# Altium schematic symbol library ubloxLib.SchLib: 110 symbols (part 1 of 4)
Pins are listed as number, name and electrical type; pins without a type are passive.

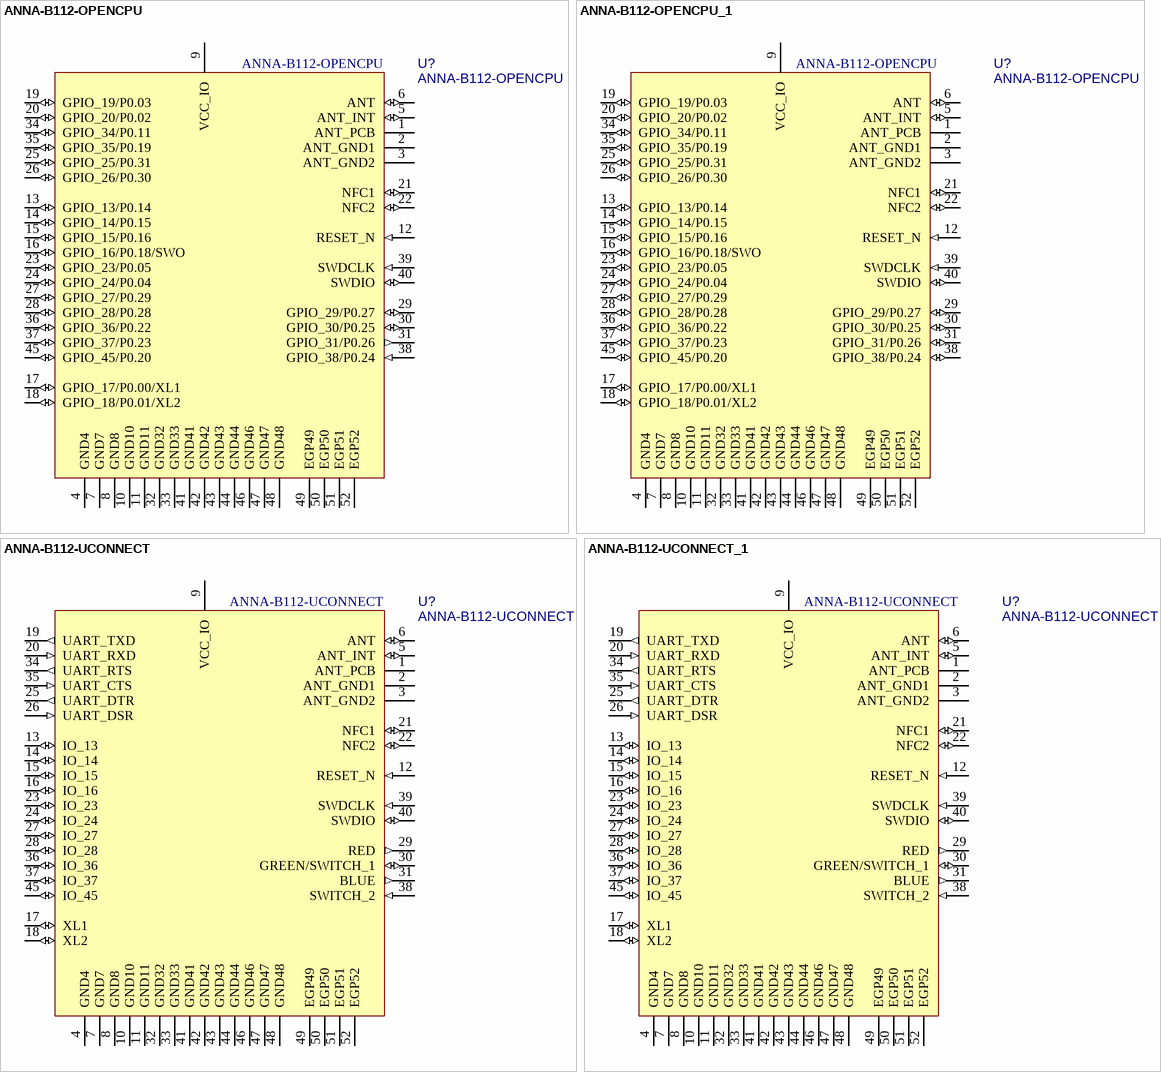
[diagram p0: symbols ANNA-B112-OPENCPU to ANNA-B112-UCONNECT_1]

## ANNA-B112-OPENCPU
designator U?
u-blox ANNA-B112 Bluetooth 5 LE module; Part Description: Stand-alone Bluetooth low energy module; Manufacturer: u-blox; Value: ANNA-B112-OPENCPU
footprint ANNA_LGA52S_650X650
pins: 1 ANT_PCB, 2 ANT_GND1 (power), 3 ANT_GND2 (power), 4 GND4 (power), 5 ANT_INT (io), 6 ANT (io), 7 GND7 (power), 8 GND8 (power), 9 VCC_IO (power), 10 GND10 (power), 11 GND11 (power), 12 RESET_N (in), 13 GPIO_13/P0.14 (io), 14 GPIO_14/P0.15 (io), 15 GPIO_15/P0.16 (io), 16 GPIO_16/P0.18/SWO (io), 17 GPIO_17/P0.00/XL1 (io), 18 GPIO_18/P0.01/XL2 (io), 19 GPIO_19/P0.03 (io), 20 GPIO_20/P0.02 (io), 21 NFC1 (io), 22 NFC2 (io), 23 GPIO_23/P0.05 (io), 24 GPIO_24/P0.04 (io), 25 GPIO_25/P0.31 (io), 26 GPIO_26/P0.30 (io), 27 GPIO_27/P0.29 (io), 28 GPIO_28/P0.28 (io), 29 GPIO_29/P0.27 (io), 30 GPIO_30/P0.25 (io), 31 GPIO_31/P0.26 (out), 32 GND32 (power), 33 GND33 (power), 34 GPIO_34/P0.11 (io), 35 GPIO_35/P0.19 (io), 36 GPIO_36/P0.22 (io), 37 GPIO_37/P0.23 (io), 38 GPIO_38/P0.24 (in), 39 SWDCLK (in), 40 SWDIO (io), 41 GND41 (power), 42 GND42 (power), 43 GND43 (power), 44 GND44 (power), 45 GPIO_45/P0.20 (io), 46 GND46 (power), 47 GND47 (power), 48 GND48 (power), 49 EGP49 (power), 50 EGP50 (power), 51 EGP51 (power), 52 EGP52 (power)

## ANNA-B112-OPENCPU_1
designator U?, comment ANNA-B112-OPENCPU
u-blox ANNA-B112 Bluetooth 5 LE module; Part Description: Stand-alone Bluetooth low energy module; Manufacturer: u-blox; Value: ANNA-B112-OPENCPU
footprint ANNA_LGA52S_650X650
pins: 1 ANT_PCB, 2 ANT_GND1 (power), 3 ANT_GND2 (power), 4 GND4 (power), 5 ANT_INT (io), 6 ANT (io), 7 GND7 (power), 8 GND8 (power), 9 VCC_IO (power), 10 GND10 (power), 11 GND11 (power), 12 RESET_N (in), 13 GPIO_13/P0.14 (io), 14 GPIO_14/P0.15 (io), 15 GPIO_15/P0.16 (io), 16 GPIO_16/P0.18/SWO (io), 17 GPIO_17/P0.00/XL1 (io), 18 GPIO_18/P0.01/XL2 (io), 19 GPIO_19/P0.03 (io), 20 GPIO_20/P0.02 (io), 21 NFC1 (io), 22 NFC2 (io), 23 GPIO_23/P0.05 (io), 24 GPIO_24/P0.04 (io), 25 GPIO_25/P0.31 (io), 26 GPIO_26/P0.30 (io), 27 GPIO_27/P0.29 (io), 28 GPIO_28/P0.28 (io), 29 GPIO_29/P0.27 (io), 30 GPIO_30/P0.25 (io), 31 GPIO_31/P0.26 (io), 32 GND32 (power), 33 GND33 (power), 34 GPIO_34/P0.11 (io), 35 GPIO_35/P0.19 (io), 36 GPIO_36/P0.22 (io), 37 GPIO_37/P0.23 (io), 38 GPIO_38/P0.24 (io), 39 SWDCLK (in), 40 SWDIO (io), 41 GND41 (power), 42 GND42 (power), 43 GND43 (power), 44 GND44 (power), 45 GPIO_45/P0.20 (io), 46 GND46 (power), 47 GND47 (power), 48 GND48 (power), 49 EGP49 (power), 50 EGP50 (power), 51 EGP51 (power), 52 EGP52 (power)

## ANNA-B112-UCONNECT
designator U?
u-blox ANNA-B112 Bluetooth 5 LE module; Part Description: Stand-alone Bluetooth low energy module; Manufacturer: u-blox; Value: ANNA-B112-UCONNECT
footprint ANNA_LGA52S_650X650
pins: 1 ANT_PCB, 2 ANT_GND1 (power), 3 ANT_GND2 (power), 4 GND4 (power), 5 ANT_INT (io), 6 ANT (io), 7 GND7 (power), 8 GND8 (power), 9 VCC_IO (power), 10 GND10 (power), 11 GND11 (power), 12 RESET_N (in), 13 IO_13 (io), 14 IO_14 (io), 15 IO_15 (io), 16 IO_16 (io), 17 XL1 (io), 18 XL2 (io), 19 UART_TXD (out), 20 UART_RXD (in), 21 NFC1 (io), 22 NFC2 (io), 23 IO_23 (io), 24 IO_24 (io), 25 UART_DTR (out), 26 UART_DSR (in), 27 IO_27 (io), 28 IO_28 (io), 29 RED (out), 30 GREEN/SWITCH_1 (io), 31 BLUE (out), 32 GND32 (power), 33 GND33 (power), 34 UART_RTS (out), 35 UART_CTS (in), 36 IO_36 (io), 37 IO_37 (io), 38 SWITCH_2 (in), 39 SWDCLK (in), 40 SWDIO (io), 41 GND41 (power), 42 GND42 (power), 43 GND43 (power), 44 GND44 (power), 45 IO_45 (io), 46 GND46 (power), 47 GND47 (power), 48 GND48 (power), 49 EGP49 (power), 50 EGP50 (power), 51 EGP51 (power), 52 EGP52 (power)

## ANNA-B112-UCONNECT_1
designator U?, comment ANNA-B112-UCONNECT
u-blox ANNA-B112 Bluetooth 5 LE module; Part Description: Stand-alone Bluetooth low energy module; Manufacturer: u-blox; Value: ANNA-B112-UCONNECT
footprint ANNA_LGA52S_650X650
pins: 1 ANT_PCB, 2 ANT_GND1 (power), 3 ANT_GND2 (power), 4 GND4 (power), 5 ANT_INT (io), 6 ANT (io), 7 GND7 (power), 8 GND8 (power), 9 VCC_IO (power), 10 GND10 (power), 11 GND11 (power), 12 RESET_N (in), 13 IO_13 (io), 14 IO_14 (io), 15 IO_15 (io), 16 IO_16 (io), 17 XL1 (io), 18 XL2 (io), 19 UART_TXD (out), 20 UART_RXD (in), 21 NFC1 (io), 22 NFC2 (io), 23 IO_23 (io), 24 IO_24 (io), 25 UART_DTR (out), 26 UART_DSR (in), 27 IO_27 (io), 28 IO_28 (io), 29 RED (out), 30 GREEN/SWITCH_1 (io), 31 BLUE (out), 32 GND32 (power), 33 GND33 (power), 34 UART_RTS (out), 35 UART_CTS (in), 36 IO_36 (io), 37 IO_37 (io), 38 SWITCH_2 (in), 39 SWDCLK (in), 40 SWDIO (io), 41 GND41 (power), 42 GND42 (power), 43 GND43 (power), 44 GND44 (power), 45 IO_45 (io), 46 GND46 (power), 47 GND47 (power), 48 GND48 (power), 49 EGP49 (power), 50 EGP50 (power), 51 EGP51 (power), 52 EGP52 (power)

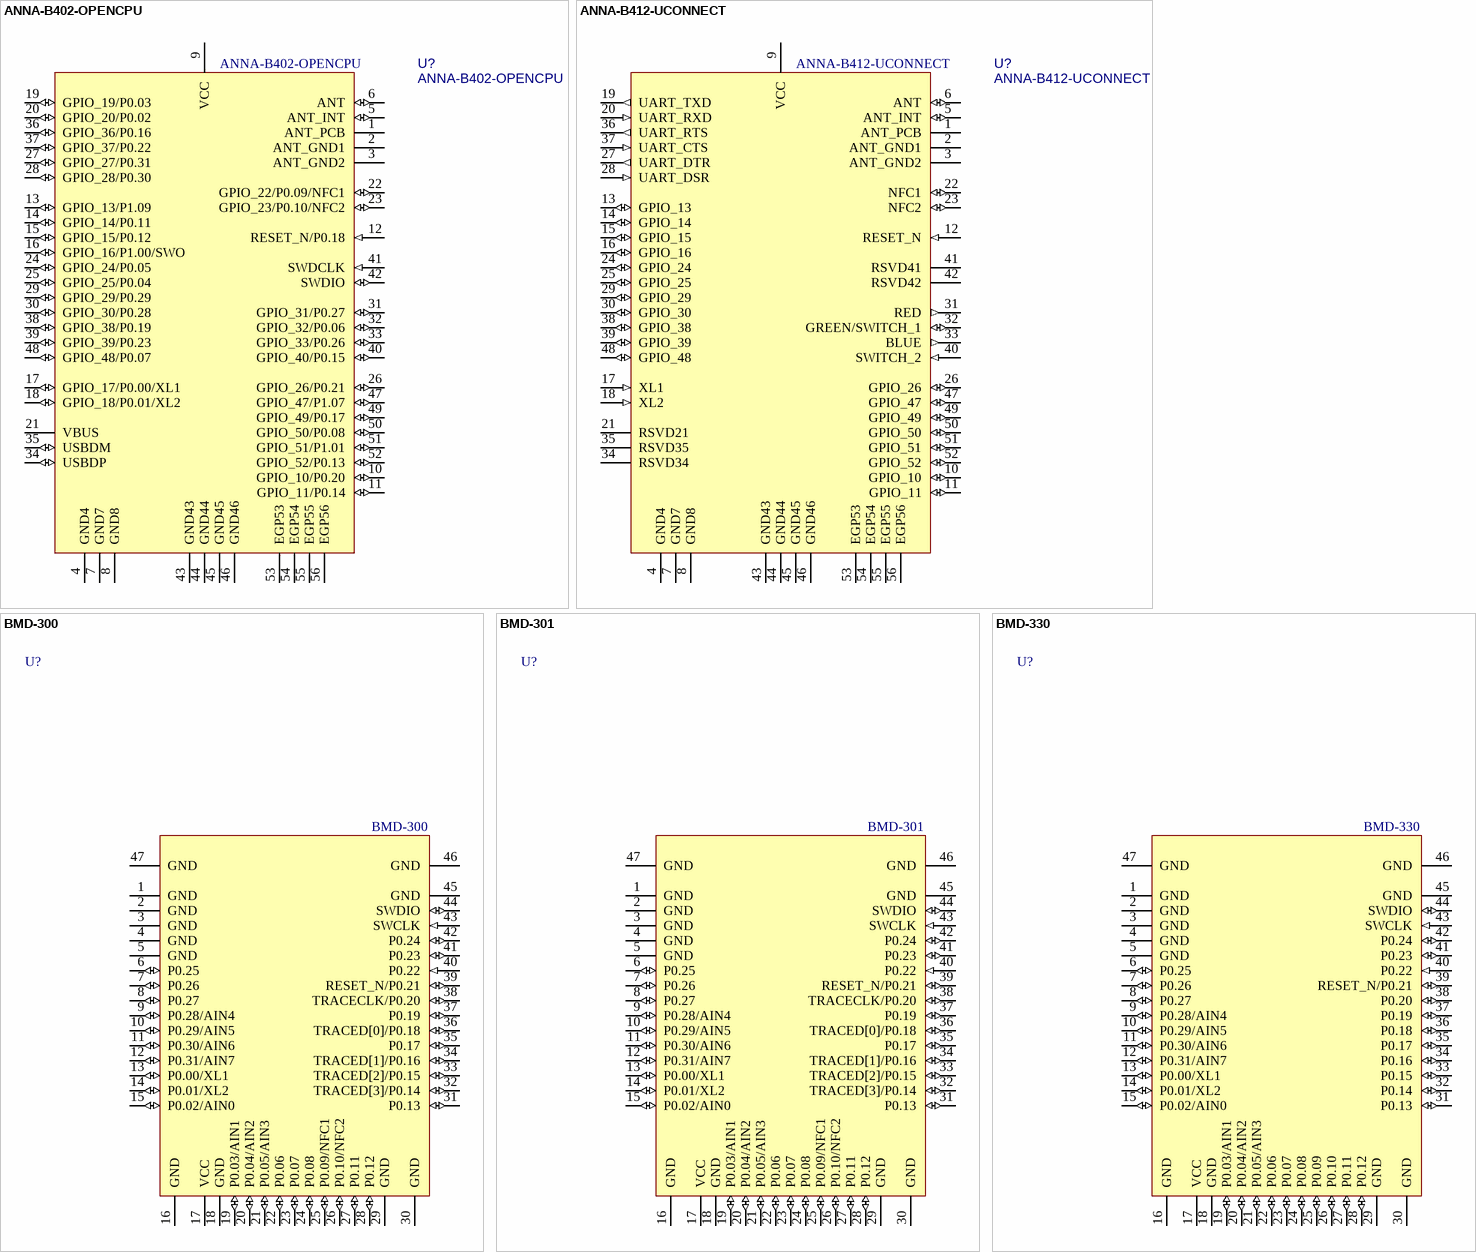
[diagram p1: symbols ANNA-B402-OPENCPU to BMD-330]

## ANNA-B402-OPENCPU
designator U?
u-blox ANNA-B402 Bluetooth 5 LE module; Part Description: Stand-alone Bluetooth low energy module; Manufacturer: u-blox; Value: ANNA-B402-OPENCPU
footprint ANNA-B4_LGA52S_650X650
pins: 1 ANT_PCB, 2 ANT_GND1 (power), 3 ANT_GND2 (power), 4 GND4 (power), 5 ANT_INT (io), 6 ANT (io), 7 GND7 (power), 8 GND8 (power), 9 VCC (power), 10 GPIO_10/P0.20 (io), 11 GPIO_11/P0.14 (io), 12 RESET_N/P0.18 (in), 13 GPIO_13/P1.09 (io), 14 GPIO_14/P0.11 (io), 15 GPIO_15/P0.12 (io), 16 GPIO_16/P1.00/SWO (io), 17 GPIO_17/P0.00/XL1 (io), 18 GPIO_18/P0.01/XL2 (io), 19 GPIO_19/P0.03 (io), 20 GPIO_20/P0.02 (io), 21 VBUS (power), 22 GPIO_22/P0.09/NFC1 (io), 23 GPIO_23/P0.10/NFC2 (io), 24 GPIO_24/P0.05 (io), 25 GPIO_25/P0.04 (io), 26 GPIO_26/P0.21 (io), 27 GPIO_27/P0.31 (io), 28 GPIO_28/P0.30 (io), 29 GPIO_29/P0.29 (io), 30 GPIO_30/P0.28 (io), 31 GPIO_31/P0.27 (io), 32 GPIO_32/P0.06 (io), 33 GPIO_33/P0.26 (io), 34 USBDP (io), 35 USBDM (io), 36 GPIO_36/P0.16 (io), 37 GPIO_37/P0.22 (io), 38 GPIO_38/P0.19 (io), 39 GPIO_39/P0.23 (io), 40 GPIO_40/P0.15 (io), 41 SWDCLK (in), 42 SWDIO (io), 43 GND43 (power), 44 GND44 (power), 45 GND45 (power), 46 GND46 (power), 47 GPIO_47/P1.07 (io), 48 GPIO_48/P0.07 (io), 49 GPIO_49/P0.17 (io), 50 GPIO_50/P0.08 (io), 51 GPIO_51/P1.01 (io), 52 GPIO_52/P0.13 (io), 53 EGP53 (power), 54 EGP54 (power), 55 EGP55 (power), 56 EGP56 (power)

## ANNA-B412-UCONNECT
designator U?
u-blox ANNA-B112 Bluetooth 5 LE module; Part Description: Stand-alone Bluetooth low energy module; Manufacturer: u-blox; Value: ANNA-B412-UCONNECT
footprint ANNA-B4_LGA52S_650X650
pins: 1 ANT_PCB, 2 ANT_GND1 (power), 3 ANT_GND2 (power), 4 GND4 (power), 5 ANT_INT (io), 6 ANT (io), 7 GND7 (power), 8 GND8 (power), 9 VCC (power), 10 GPIO_10 (io), 11 GPIO_11 (io), 12 RESET_N (in), 13 GPIO_13 (io), 14 GPIO_14 (io), 15 GPIO_15 (io), 16 GPIO_16 (io), 17 XL1 (in), 18 XL2 (in), 19 UART_TXD (out), 20 UART_RXD (in), 21 RSVD21, 22 NFC1 (io), 23 NFC2 (io), 24 GPIO_24 (io), 25 GPIO_25 (io), 26 GPIO_26 (io), 27 UART_DTR (out), 28 UART_DSR (in), 29 GPIO_29 (io), 30 GPIO_30 (io), 31 RED (out), 32 GREEN/SWITCH_1 (io), 33 BLUE (out), 34 RSVD34, 35 RSVD35, 36 UART_RTS (out), 37 UART_CTS (in), 38 GPIO_38 (io), 39 GPIO_39 (io), 40 SWITCH_2 (in), 41 RSVD41, 42 RSVD42, 43 GND43 (power), 44 GND44 (power), 45 GND45 (power), 46 GND46 (power), 47 GPIO_47 (io), 48 GPIO_48 (io), 49 GPIO_49 (io), 50 GPIO_50 (io), 51 GPIO_51 (io), 52 GPIO_52 (io), 53 EGP53 (power), 54 EGP54 (power), 55 EGP55 (power), 56 EGP56 (power)

## BMD-300
designator U?  Part Number: BMD-300
u-blox BMD-300 Bluetooth 5 LE module; Manufacturer P/N: BMD-300-A-R; Body Size: 14mm x 9.8mm; Internal Antenna: PCB; Protocol: BT 5 LE, 2.4GHz Proprietary; Manufacturer: u-blox; Height: 1.9mm
footprint BMD_LGA47S_1400X980X190_PCB (LGA, 47pin, 1.1mm Pitch, 14mm x 9.8mm)
pins: 1 GND (power), 2 GND (power), 3 GND (power), 4 GND (power), 5 GND (power), 6 P0.25 (io), 7 P0.26 (io), 8 P0.27 (io), 9 P0.28/AIN4 (io), 10 P0.29/AIN5 (io), 11 P0.30/AIN6 (io), 12 P0.31/AIN7 (io), 13 P0.00/XL1 (io), 14 P0.01/XL2 (io), 15 P0.02/AIN0 (io), 16 GND (power), 17 VCC (power), 18 GND (power), 19 P0.03/AIN1 (io), 20 P0.04/AIN2 (io), 21 P0.05/AIN3 (io), 22 P0.06 (io), 23 P0.07 (io), 24 P0.08 (io), 25 P0.09/NFC1 (io), 26 P0.10/NFC2 (io), 27 P0.11 (io), 28 P0.12 (io), 29 GND (power), 30 GND (power), 31 P0.13 (io), 32 TRACED[3]/P0.14 (io), 33 TRACED[2]/P0.15 (io), 34 TRACED[1]/P0.16 (io), 35 P0.17 (io), 36 TRACED[0]/P0.18 (io), 37 P0.19 (io), 38 TRACECLK/P0.20 (io), 39 RESET_N/P0.21 (io), 40 P0.22 (in), 41 P0.23 (io), 42 P0.24 (io), 43 SWCLK (in), 44 SWDIO (io), 45 GND (power), 46 GND (power), 47 GND (power)

## BMD-301
designator U?  Part Number: BMD-301
u-blox BMD-301 Bluetooth 5 LE module; Manufacturer P/N: BMD-301-A-R; Body Size: 14mm x 9.8mm; Internal Antenna: U.FL; Protocol: BT 5 LE, 2.4GHz Proprietary; Manufacturer: u-blox; Height: 1.9mm
footprint BMD_LGA47S_1400X980X190_UFL (LGA, 47pin, 1.1mm Pitch, 14mm x 9.8mm)
pins: 1 GND (power), 2 GND (power), 3 GND (power), 4 GND (power), 5 GND (power), 6 P0.25 (io), 7 P0.26 (io), 8 P0.27 (io), 9 P0.28/AIN4 (io), 10 P0.29/AIN5 (io), 11 P0.30/AIN6 (io), 12 P0.31/AIN7 (io), 13 P0.00/XL1 (io), 14 P0.01/XL2 (io), 15 P0.02/AIN0 (io), 16 GND (power), 17 VCC (power), 18 GND (power), 19 P0.03/AIN1 (io), 20 P0.04/AIN2 (io), 21 P0.05/AIN3 (io), 22 P0.06 (io), 23 P0.07 (io), 24 P0.08 (io), 25 P0.09/NFC1 (io), 26 P0.10/NFC2 (io), 27 P0.11 (io), 28 P0.12 (io), 29 GND (power), 30 GND (power), 31 P0.13 (io), 32 TRACED[3]/P0.14 (io), 33 TRACED[2]/P0.15 (io), 34 TRACED[1]/P0.16 (io), 35 P0.17 (io), 36 TRACED[0]/P0.18 (io), 37 P0.19 (io), 38 TRACECLK/P0.20 (io), 39 RESET_N/P0.21 (io), 40 P0.22 (in), 41 P0.23 (io), 42 P0.24 (io), 43 SWCLK (in), 44 SWDIO (io), 45 GND (power), 46 GND (power), 47 GND (power)

## BMD-330
designator U?  Part Number: BMD-330
u-blox BMD-330 Bluetooth 5 LE module; Manufacturer P/N: BMD-330-A-R; Body Size: 14mm x 9.8mm; Internal Antenna: PCB; Protocol: BT 5 LE, 2.4GHz Proprietary; Manufacturer: u-blox; Height: 1.9mm
footprint BMD_LGA47S_1400X980X190_PCB (LGA, 47pin, 1.1mm Pitch, 14mm x 9.8mm)
pins: 1 GND (power), 2 GND (power), 3 GND (power), 4 GND (power), 5 GND (power), 6 P0.25 (io), 7 P0.26 (io), 8 P0.27 (io), 9 P0.28/AIN4 (io), 10 P0.29/AIN5 (io), 11 P0.30/AIN6 (io), 12 P0.31/AIN7 (io), 13 P0.00/XL1 (io), 14 P0.01/XL2 (io), 15 P0.02/AIN0 (io), 16 GND (power), 17 VCC (power), 18 GND (power), 19 P0.03/AIN1 (io), 20 P0.04/AIN2 (io), 21 P0.05/AIN3 (io), 22 P0.06 (io), 23 P0.07 (io), 24 P0.08 (io), 25 P0.09 (io), 26 P0.10 (io), 27 P0.11 (io), 28 P0.12 (io), 29 GND (power), 30 GND (power), 31 P0.13 (io), 32 P0.14 (io), 33 P0.15 (io), 34 P0.16 (io), 35 P0.17 (io), 36 P0.18 (io), 37 P0.19 (io), 38 P0.20 (io), 39 RESET_N/P0.21 (io), 40 P0.22 (in), 41 P0.23 (io), 42 P0.24 (io), 43 SWCLK (in), 44 SWDIO (io), 45 GND (power), 46 GND (power), 47 GND (power)

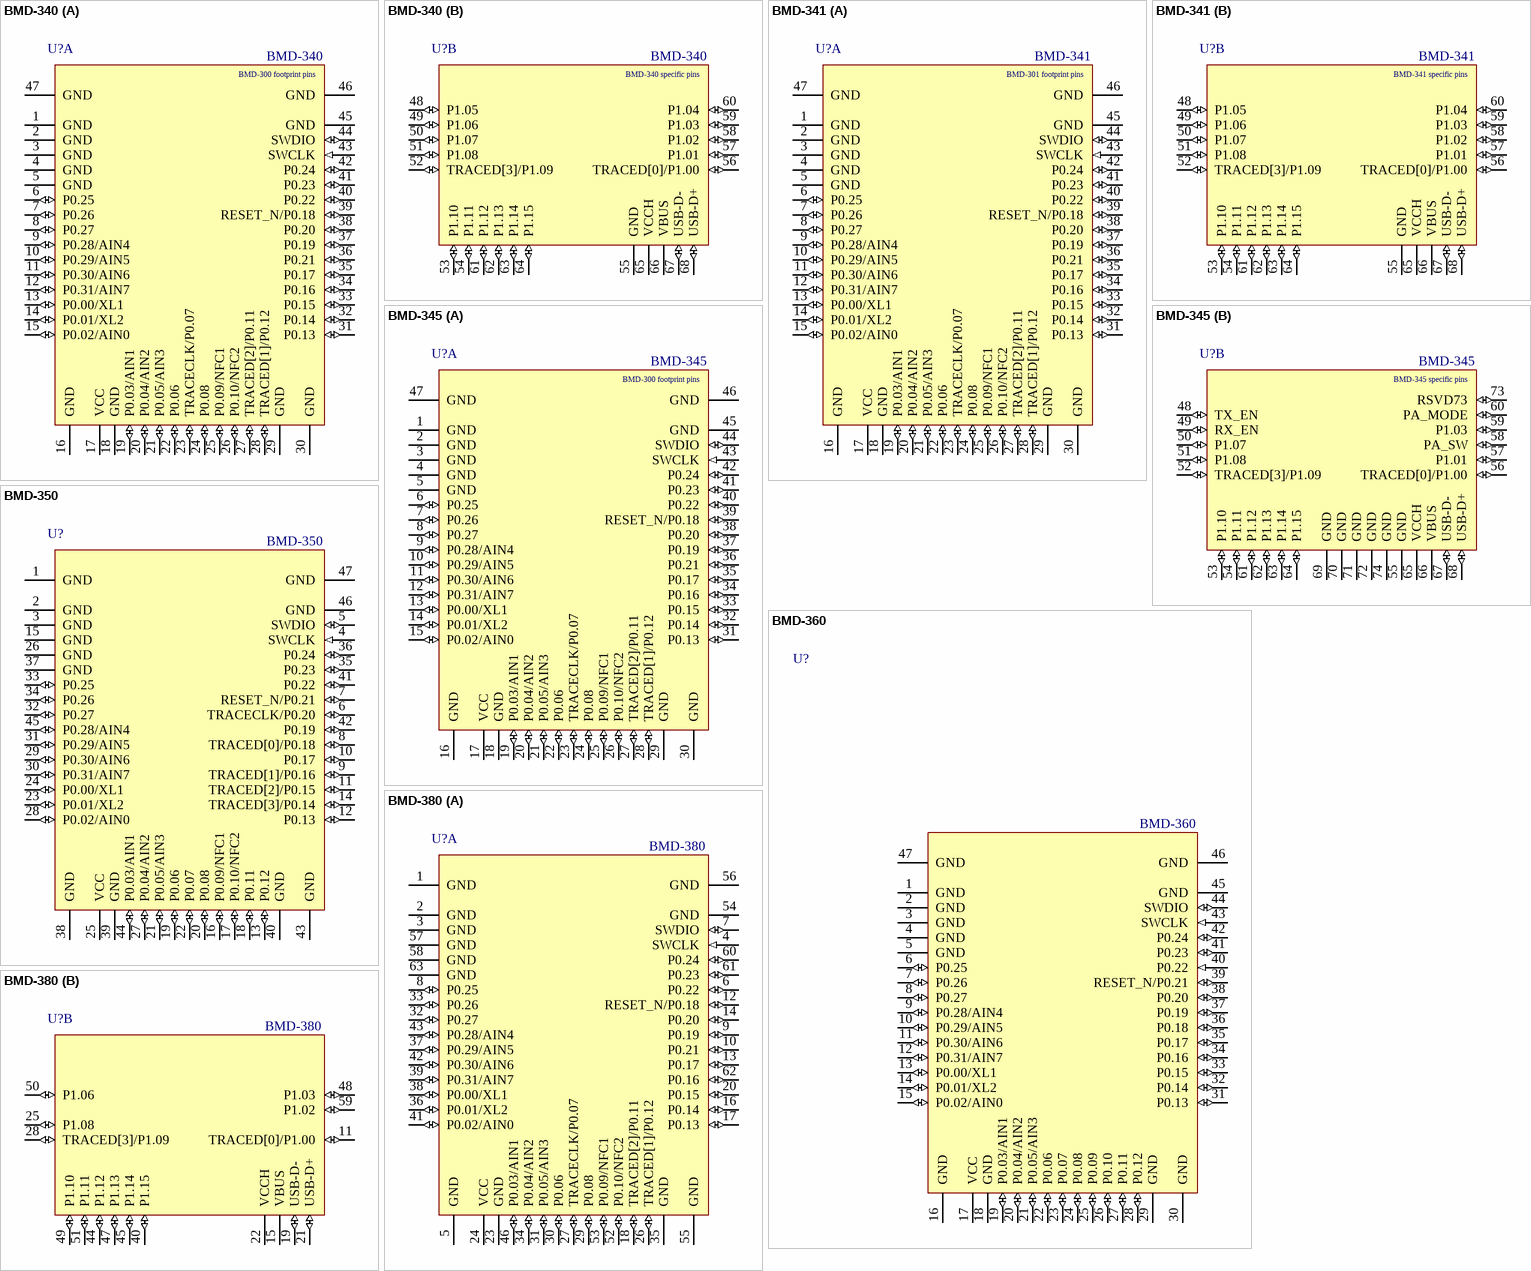
[diagram p2: symbols BMD-340 to BMD-380]

## BMD-340
designator U?  Part Number: BMD-340
u-blox BMD-340 Bluetooth 5 LE, 802.15.4 module; Manufacturer P/N: BMD-340-A-R; Body Size: 15mm x 10.2mm; Internal Antenna: PCB; Protocol: BT 5 LE, 802.15.4, 2.4GHz Proprietary; Manufacturer: u-blox; Height: 1.9mm
footprint BMD_LGA68S_1500X1020X190_PCB (LGA, 68pin, 1.1mm Pitch, 15mm x 10.2mm)
part A pins: 1 GND (power), 2 GND (power), 3 GND (power), 4 GND (power), 5 GND (power), 6 P0.25 (io), 7 P0.26 (io), 8 P0.27 (io), 9 P0.28/AIN4 (io), 10 P0.29/AIN5 (io), 11 P0.30/AIN6 (io), 12 P0.31/AIN7 (io), 13 P0.00/XL1 (io), 14 P0.01/XL2 (io), 15 P0.02/AIN0 (io), 16 GND (power), 17 VCC (power), 18 GND (power), 19 P0.03/AIN1 (io), 20 P0.04/AIN2 (io), 21 P0.05/AIN3 (io), 22 P0.06 (io), 23 TRACECLK/P0.07 (io), 24 P0.08 (io), 25 P0.09/NFC1 (io), 26 P0.10/NFC2 (io), 27 TRACED[2]/P0.11 (io), 28 TRACED[1]/P0.12 (io), 29 GND (power), 30 GND (power), 31 P0.13 (io), 32 P0.14 (io), 33 P0.15 (io), 34 P0.16 (io), 35 P0.17 (io), 36 P0.21 (io), 37 P0.19 (io), 38 P0.20 (io), 39 RESET_N/P0.18 (io), 40 P0.22 (io), 41 P0.23 (io), 42 P0.24 (io), 43 SWCLK (in), 44 SWDIO (io), 45 GND (power), 46 GND (power), 47 GND (power)
part B pins: 48 P1.05 (io), 49 P1.06 (io), 50 P1.07 (io), 51 P1.08 (io), 52 TRACED[3]/P1.09 (io), 53 P1.10 (io), 54 P1.11 (io), 55 GND (power), 56 TRACED[0]/P1.00 (io), 57 P1.01 (io), 58 P1.02 (io), 59 P1.03 (io), 60 P1.04 (io), 61 P1.12 (io), 62 P1.13 (io), 63 P1.14 (io), 64 P1.15 (io), 65 VCCH (power), 66 VBUS (power), 67 USB-D- (io), 68 USB-D+ (io)
part A text: BMD-300 footprint pins
part B text: BMD-340 specific pins

## BMD-341
designator U?  Part Number: BMD-341
u-blox BMD-341 Bluetooth 5 LE, 802.15.4 module; Manufacturer P/N: BMD-341-A-R; Body Size: 15mm x 10.2mm; Internal Antenna: PCB; Protocol: BT 5 LE, 802.15.4, 2.4GHz Proprietary; Manufacturer: u-blox; Height: 1.9mm
footprint BMD_LGA68S_1500X1020X190_UFL (LGA, 68pin, 1.1mm Pitch, 15mm x 10.2mm)
part A pins: 1 GND (power), 2 GND (power), 3 GND (power), 4 GND (power), 5 GND (power), 6 P0.25 (io), 7 P0.26 (io), 8 P0.27 (io), 9 P0.28/AIN4 (io), 10 P0.29/AIN5 (io), 11 P0.30/AIN6 (io), 12 P0.31/AIN7 (io), 13 P0.00/XL1 (io), 14 P0.01/XL2 (io), 15 P0.02/AIN0 (io), 16 GND (power), 17 VCC (power), 18 GND (power), 19 P0.03/AIN1 (io), 20 P0.04/AIN2 (io), 21 P0.05/AIN3 (io), 22 P0.06 (io), 23 TRACECLK/P0.07 (io), 24 P0.08 (io), 25 P0.09/NFC1 (io), 26 P0.10/NFC2 (io), 27 TRACED[2]/P0.11 (io), 28 TRACED[1]/P0.12 (io), 29 GND (power), 30 GND (power), 31 P0.13 (io), 32 P0.14 (io), 33 P0.15 (io), 34 P0.16 (io), 35 P0.17 (io), 36 P0.21 (io), 37 P0.19 (io), 38 P0.20 (io), 39 RESET_N/P0.18 (io), 40 P0.22 (io), 41 P0.23 (io), 42 P0.24 (io), 43 SWCLK (in), 44 SWDIO (io), 45 GND (power), 46 GND (power), 47 GND (power)
part B pins: 48 P1.05 (io), 49 P1.06 (io), 50 P1.07 (io), 51 P1.08 (io), 52 TRACED[3]/P1.09 (io), 53 P1.10 (io), 54 P1.11 (io), 55 GND (power), 56 TRACED[0]/P1.00 (io), 57 P1.01 (io), 58 P1.02 (io), 59 P1.03 (io), 60 P1.04 (io), 61 P1.12 (io), 62 P1.13 (io), 63 P1.14 (io), 64 P1.15 (io), 65 VCCH (power), 66 VBUS (power), 67 USB-D- (io), 68 USB-D+ (io)
part A text: BMD-301 footprint pins
part B text: BMD-341 specific pins

## BMD-345
designator U?  Part Number: BMD-345
u-blox BMD-345 Bluetooth 5 LE, 802.15.4 module with FEM; Manufacturer P/N: BMD-345-A-R; Body Size: 15mm x 10.2mm; Internal Antenna: PCB; Protocol: BT 5 LE, 802.15.4, 2.4GHz Proprietary; Manufacturer: u-blox; Height: 1.9mm
footprint BMD_LGA74S_1500X1020X190_UFL (LGA, 68pin, 1.1mm Pitch, 15mm x 10.2mm)
part A pins: 1 GND (power), 2 GND (power), 3 GND (power), 4 GND (power), 5 GND (power), 6 P0.25 (io), 7 P0.26 (io), 8 P0.27 (io), 9 P0.28/AIN4 (io), 10 P0.29/AIN5 (io), 11 P0.30/AIN6 (io), 12 P0.31/AIN7 (io), 13 P0.00/XL1 (io), 14 P0.01/XL2 (io), 15 P0.02/AIN0 (io), 16 GND (power), 17 VCC (power), 18 GND (power), 19 P0.03/AIN1 (io), 20 P0.04/AIN2 (io), 21 P0.05/AIN3 (io), 22 P0.06 (io), 23 TRACECLK/P0.07 (io), 24 P0.08 (io), 25 P0.09/NFC1 (io), 26 P0.10/NFC2 (io), 27 TRACED[2]/P0.11 (io), 28 TRACED[1]/P0.12 (io), 29 GND (power), 30 GND (power), 31 P0.13 (io), 32 P0.14 (io), 33 P0.15 (io), 34 P0.16 (io), 35 P0.17 (io), 36 P0.21 (io), 37 P0.19 (io), 38 P0.20 (io), 39 RESET_N/P0.18 (io), 40 P0.22 (io), 41 P0.23 (io), 42 P0.24 (io), 43 SWCLK (in), 44 SWDIO (io), 45 GND (power), 46 GND (power), 47 GND (power)
part B pins: 48 TX_EN (io), 49 RX_EN (io), 50 P1.07 (io), 51 P1.08 (io), 52 TRACED[3]/P1.09 (io), 53 P1.10 (io), 54 P1.11 (io), 55 GND (power), 56 TRACED[0]/P1.00 (io), 57 P1.01 (io), 58 PA_SW (io), 59 P1.03 (io), 60 PA_MODE (io), 61 P1.12 (io), 62 P1.13 (io), 63 P1.14 (io), 64 P1.15 (io), 65 VCCH (power), 66 VBUS (power), 67 USB-D- (io), 68 USB-D+ (io), 69 GND (power), 70 GND (power), 71 GND (power), 72 GND (power), 73 RSVD73 (io), 74 GND (power)
part A text: BMD-300 footprint pins
part B text: BMD-345 specific pins

## BMD-350
designator U?  Part Number: BMD-350
u-blox BMD-350 Bluetooth 5 LE module; Manufacturer P/N: BMD-350-A-R; Internal Antenna: CHIP; Protocol: BT 5 LE, 2.4GHz Proprietary; Body Size: 8.65mm x 6.4mm; Height: 1.5mm; Manufacturer: u-blox
footprint BMD_LGA47S_865X640X150_CHIP (LGA, 47pin, 0.8mm Pitch, 8.65mm x 6.4mm)
pins: 1 GND (power), 2 GND (power), 3 GND (power), 4 SWCLK (in), 5 SWDIO (io), 6 TRACECLK/P0.20 (io), 7 RESET_N/P0.21 (io), 8 TRACED[0]/P0.18 (io), 9 TRACED[1]/P0.16 (io), 10 P0.17 (io), 11 TRACED[2]/P0.15 (io), 12 P0.13 (io), 13 P0.12 (io), 14 TRACED[3]/P0.14 (io), 15 GND (power), 16 P0.09/NFC1 (io), 17 P0.10/NFC2 (io), 18 P0.11 (io), 19 P0.06 (io), 20 P0.08 (io), 21 P0.05/AIN3 (io), 22 P0.07 (io), 23 P0.01/XL2 (io), 24 P0.00/XL1 (io), 25 VCC (power), 26 GND (power), 27 P0.04/AIN2 (io), 28 P0.02/AIN0 (io), 29 P0.30/AIN6 (io), 30 P0.31/AIN7 (io), 31 P0.29/AIN5 (io), 32 P0.27 (io), 33 P0.25 (io), 34 P0.26 (io), 35 P0.23 (io), 36 P0.24 (io), 37 GND (power), 38 GND (power), 39 GND (power), 40 GND (power), 41 P0.22 (io), 42 P0.19 (io), 43 GND (power), 44 P0.03/AIN1 (io), 45 P0.28/AIN4 (io), 46 GND (power), 47 GND (power)

## BMD-360
designator U?  Part Number: BMD-360
u-blox BMD-360 Bluetooth 5.1 LE, 802.15.4 module; Manufacturer P/N: BMD-360-A-R; Body Size: 14mm x 9.8mm; Internal Antenna: PCB; Protocol: BT 5.1 LE, 802.15.4, 2.4GHz Proprietary; Manufacturer: u-blox; Height: 1.9mm
footprint BMD_LGA47S_1400X980X190_PCB (LGA, 47pin, 1.1mm Pitch, 14mm x 9.8mm)
pins: 1 GND (power), 2 GND (power), 3 GND (power), 4 GND (power), 5 GND (power), 6 P0.25 (io), 7 P0.26 (io), 8 P0.27 (io), 9 P0.28/AIN4 (io), 10 P0.29/AIN5 (io), 11 P0.30/AIN6 (io), 12 P0.31/AIN7 (io), 13 P0.00/XL1 (io), 14 P0.01/XL2 (io), 15 P0.02/AIN0 (io), 16 GND (power), 17 VCC (power), 18 GND (power), 19 P0.03/AIN1 (io), 20 P0.04/AIN2 (io), 21 P0.05/AIN3 (io), 22 P0.06 (io), 23 P0.07 (io), 24 P0.08 (io), 25 P0.09 (io), 26 P0.10 (io), 27 P0.11 (io), 28 P0.12 (io), 29 GND (power), 30 GND (power), 31 P0.13 (io), 32 P0.14 (io), 33 P0.15 (io), 34 P0.16 (io), 35 P0.17 (io), 36 P0.18 (io), 37 P0.19 (io), 38 P0.20 (io), 39 RESET_N/P0.21 (io), 40 P0.22 (in), 41 P0.23 (io), 42 P0.24 (io), 43 SWCLK (in), 44 SWDIO (io), 45 GND (power), 46 GND (power), 47 GND (power)

## BMD-380
designator U?  Part Number: BMD-380
u-blox BMD-380 Bluetooth 5 LE, 802.15.4 module; Manufacturer P/N: BMD-380-A-R; Body Size: 9.5mm x 7.5mm; Internal Antenna: Yes; Protocol: BT 5.1 LE, 802.15.4, 2.4GHz Proprietary; Manufacturer: u-blox; Height: 1.5mm
footprint BMD_LGA63S_950X750X150_CHIP (WLCSP, 63pin, 0.85mm Pitch, 9.5mm x 7.5mm)
part A pins: 1 GND (power), 2 GND (power), 3 GND (power), 4 SWCLK (in), 5 GND (power), 6 P0.22 (io), 7 SWDIO (io), 8 P0.25 (io), 9 P0.19 (io), 10 P0.21 (io), 12 RESET_N/P0.18 (io), 13 P0.17 (io), 14 P0.20 (io), 16 P0.14 (io), 17 P0.13 (io), 18 TRACED[2]/P0.11 (io), 20 P0.15 (io), 23 GND (power), 24 VCC (power), 26 TRACED[1]/P0.12 (io), 27 TRACECLK/P0.07 (io), 29 P0.08 (io), 30 P0.06 (io), 31 P0.05/AIN3 (io), 32 P0.27 (io), 33 P0.26 (io), 34 P0.04/AIN2 (io), 35 GND (power), 36 P0.01/XL2 (io), 37 P0.29/AIN5 (io), 38 P0.00/XL1 (io), 39 P0.31/AIN7 (io), 41 P0.02/AIN0 (io), 42 P0.30/AIN6 (io), 43 P0.28/AIN4 (io), 46 P0.03/AIN1 (io), 52 P0.10/NFC2 (io), 53 P0.09/NFC1 (io), 54 GND (power), 55 GND (power), 56 GND (power), 57 GND (power), 58 GND (power), 60 P0.24 (io), 61 P0.23 (io), 62 P0.16 (io), 63 GND (power)
part B pins: 11 TRACED[0]/P1.00 (io), 15 VBUS (power), 19 USB-D- (io), 21 USB-D+ (io), 22 VCCH (power), 25 P1.08 (io), 28 TRACED[3]/P1.09 (io), 40 P1.15 (io), 44 P1.12 (io), 45 P1.14 (io), 47 P1.13 (io), 48 P1.03 (io), 49 P1.10 (io), 50 P1.06 (io), 51 P1.11 (io), 59 P1.02 (io)

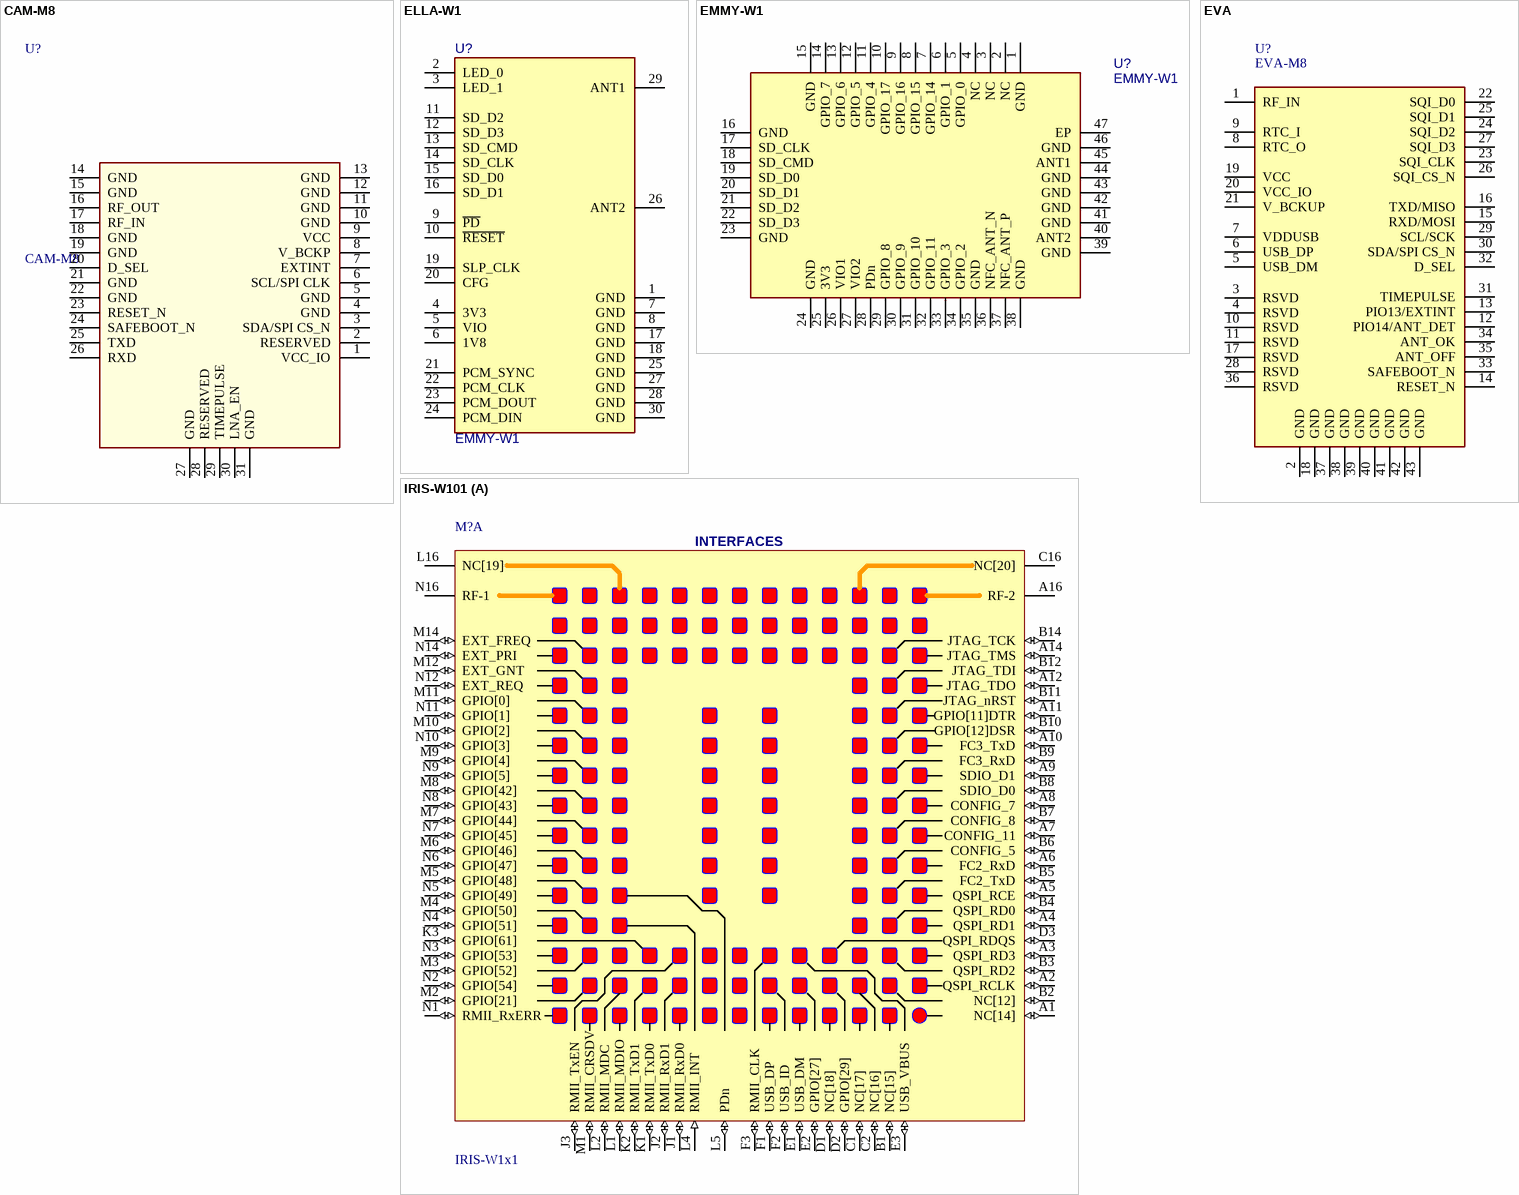
[diagram p3: symbols CAM-M8 to IRIS-W101]

## CAM-M8
designator U?
u-blox CAM GNSS antenna module; Manufacturer: u-blox; Part Description: u-blox CAM GNSS antenna module; Value: CAM-M8
footprint CAM (u-blox CAM GNSS antenna module)
pins: 1 VCC_IO, 2 RESERVED, 3 SDA/SPI CS_N, 4 GND, 5 GND, 6 SCL/SPI CLK, 7 EXTINT, 8 V_BCKP, 9 VCC, 10 GND, 11 GND, 12 GND, 13 GND, 14 GND, 15 GND, 16 RF_OUT, 17 RF_IN, 18 GND, 19 GND, 20 D_SEL, 21 GND, 22 GND, 23 RESET_N, 24 SAFEBOOT_N, 25 TXD, 26 RXD, 27 GND, 28 RESERVED, 29 TIMEPULSE, 30 LNA_EN, 31 GND

## ELLA-W1
designator U?, comment EMMY-W1
u-blox ELLA-W1 IEEE 802.11a/b/g/n Wi-Fi, Bluetooth 3.0+HS Module; Manufacturer: u-blox; Part Description: IEEE 802.11a/b/g/n Wi-Fi, Bluetooth 3.0+HS Module; Value: EMMY-W1
footprint ELLA-W1 (IEEE 802.11a/b/g/n Wi-Fi, Bluetooth 3.0+HS Module)
pins: 1 GND (power), 2 LED_0, 3 LED_1, 4 3V3 (power), 5 VIO (power), 6 1V8 (power), 7 GND (power), 8 GND (power), 9 ~{PD}, 10 ~{RESET}, 11 SD_D2, 12 SD_D3, 13 SD_CMD, 14 SD_CLK, 15 SD_D0, 16 SD_D1, 17 GND (power), 18 GND (power), 19 SLP_CLK, 20 CFG, 21 PCM_SYNC, 22 PCM_CLK, 23 PCM_DOUT, 24 PCM_DIN, 25 GND (power), 26 ANT2, 27 GND (power), 28 GND (power), 29 ANT1, 30 GND (power)

## EMMY-W1
designator U?
u-blox EMMY-W1 host-based multiradio module with Wi-Fi, Bluetooth and NFC; Part Description: Host-based multiradio module with Wi-Fi, Bluetooth and NFC; Value: EMMY-W1; Manufacturer: u-blox
footprint EMMY-W1 (Host-based multiradio module with Wi-Fi, Bluetooth and NFC)
pins: 1 GND, 2 NC, 3 NC, 4 NC, 5 GPIO_0, 6 GPIO_1, 7 GPIO_14, 8 GPIO_15, 9 GPIO_16, 10 GPIO_17, 11 GPIO_4, 12 GPIO_5, 13 GPIO_6, 14 GPIO_7, 15 GND, 16 GND, 17 SD_CLK, 18 SD_CMD, 19 SD_D0, 20 SD_D1, 21 SD_D2, 22 SD_D3, 23 GND, 24 GND, 25 3V3, 26 VIO1, 27 VIO2, 28 PDn, 29 GPIO_8, 30 GPIO_9, 31 GPIO_10, 32 GPIO_11, 33 GPIO_3, 34 GPIO_2, 35 GND, 36 NFC_ANT_N, 37 NFC_ANT_P, 38 GND, 39 GND, 40 ANT2, 41 GND, 42 GND, 43 GND, 44 GND, 45 ANT1, 46 GND, 47 EP

## EVA
designator U?, comment EVA-M8
u-blox EVA GNSS module; Part Description: u-blox EVA-M8 GNSS moduel; Manufacturer: u-blox; Value: EVA-M8
footprint EVA (u-blox EVA GNSS module)
pins: 1 RF_IN, 2 GND (power), 3 RSVD, 4 RSVD, 5 USB_DM, 6 USB_DP, 7 VDDUSB (power), 8 RTC_O, 9 RTC_I, 10 RSVD, 11 RSVD, 12 PIO14/ANT_DET, 13 PIO13/EXTINT, 14 RESET_N, 15 RXD/MOSI, 16 TXD/MISO, 17 RSVD, 18 GND (power), 19 VCC (power), 20 VCC_IO (power), 21 V_BCKUP (power), 22 SQI_D0, 23 SQI_CLK, 24 SQI_D2, 25 SQI_D1, 26 SQI_CS_N, 27 SQI_D3, 28 RSVD, 29 SCL/SCK, 30 SDA/SPI CS_N, 31 TIMEPULSE, 32 D_SEL, 33 SAFEBOOT_N, 34 ANT_OK, 35 ANT_OFF, 36 RSVD, 37 GND (power), 38 GND (power), 39 GND (power), 40 GND (power), 41 GND (power), 42 GND (power), 43 GND (power)

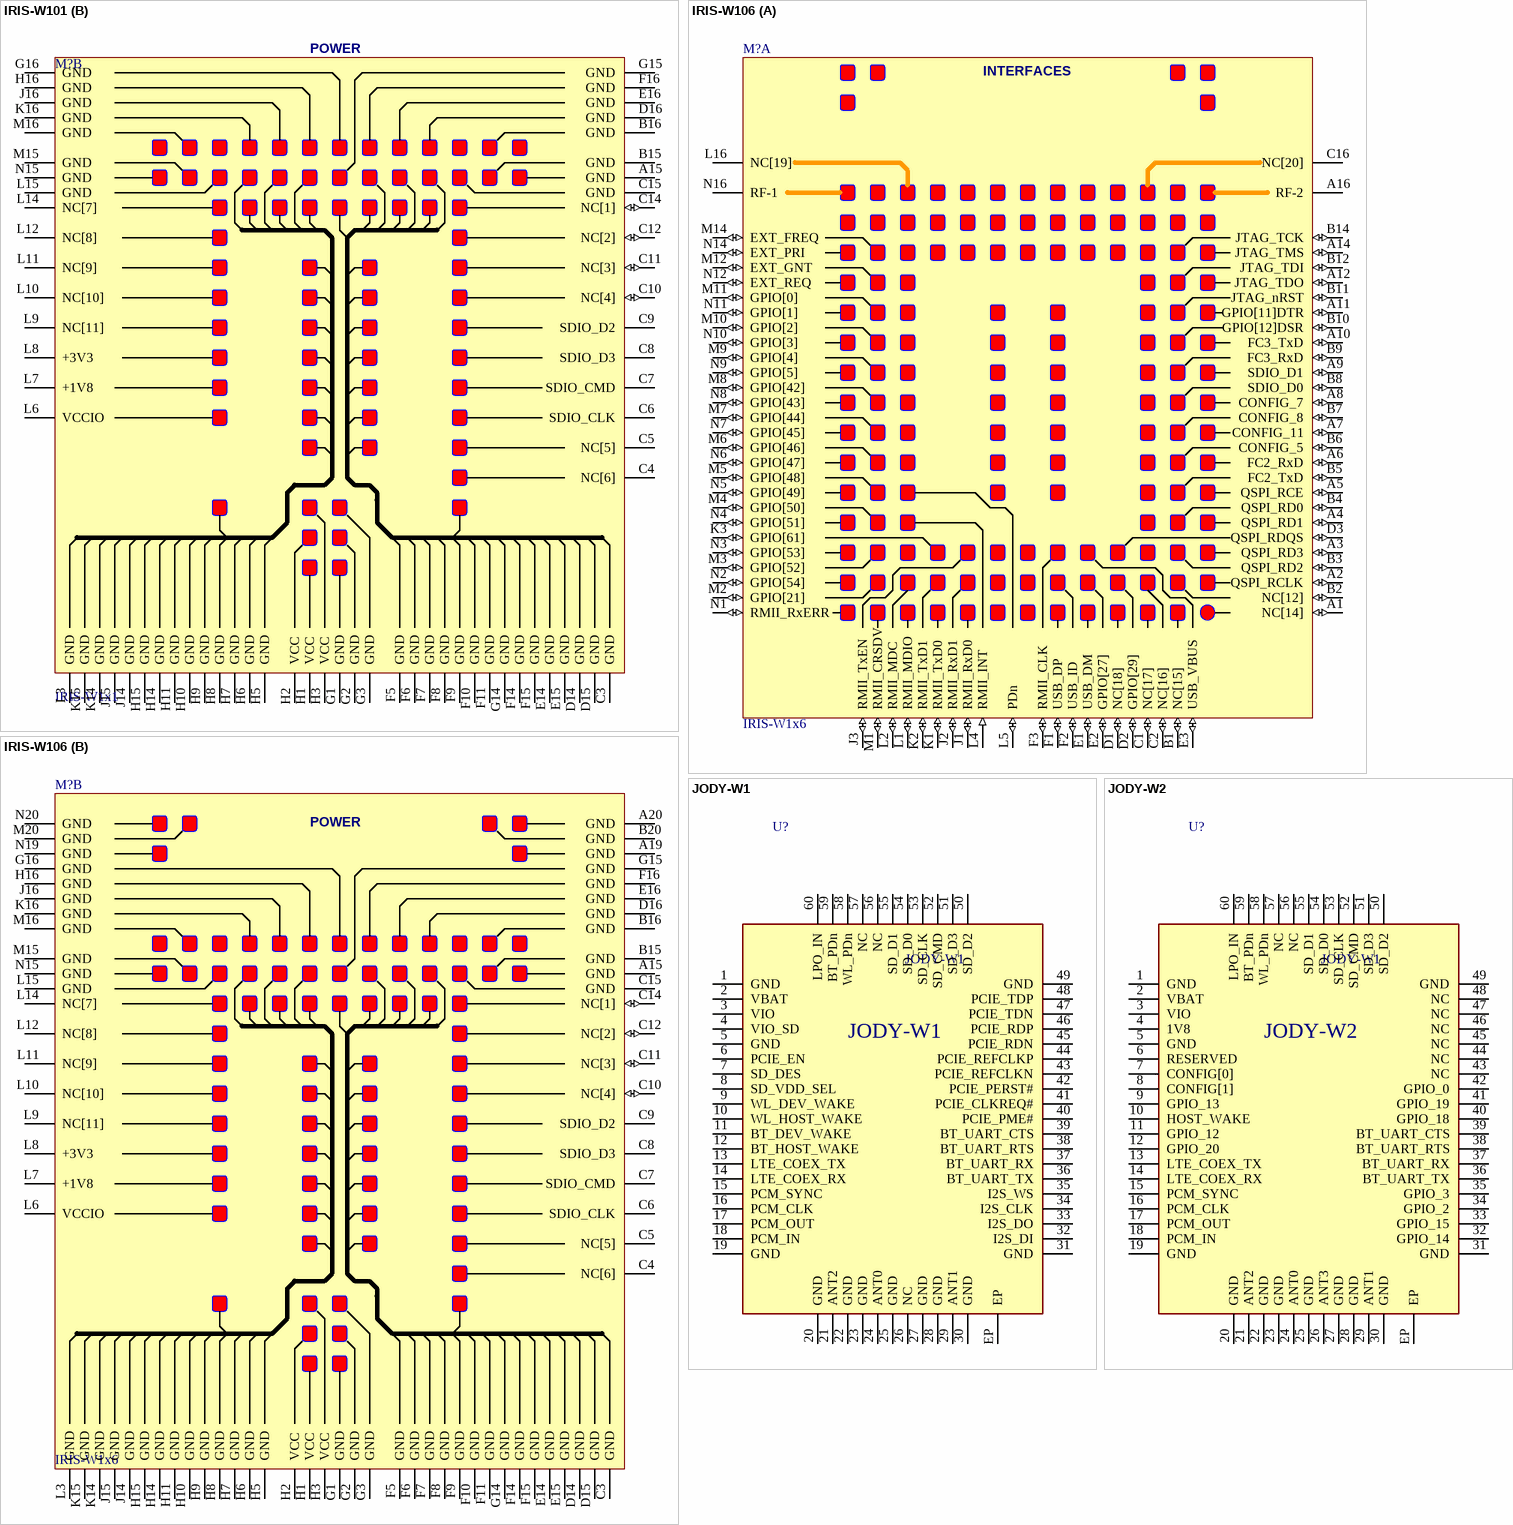
[diagram p4: symbols IRIS-W101 to JODY-W2]

## IRIS-W101
designator M?, comment IRIS-W1x1
SHORT RANGE STAND-ALONE MULTIRADIO MODULE U-BLOX IRIS-W101; Part Number: UBXH14-0000680; Editor: olof.viklund; Env: ROHS; Permitted Use: Volume Products; Perferred: PREF; Min Operating Temp: -40°C; Max Operating Temp: 85°C; Part Type: RF; UBX Wiki: https://wiki.u-blox.com/bin/view/Operations/PartDetails?index=38239; RefDes: A
footprint IRIS-W1x1 (IRIS LGA, 146pin ,1.1mm Pitch, 14.6mm x 16.8mm)
part A pins: A1 NC[14] (io), A2 QSPI_RCLK (io), A3 QSPI_RD3 (io), A4 QSPI_RD1 (io), A5 QSPI_RCE (io), A6 FC2_RxD (io), A7 CONFIG_11 (io), A8 CONFIG_7 (io), A9 SDIO_D1 (io), A10 FC3_TxD (io), A11 GPIO[11]DTR (io), A12 JTAG_TDO (io), A14 JTAG_TMS (io), A16 RF-2, B1 NC[15] (io), B2 NC[12] (io), B3 QSPI_RD2 (io), B4 QSPI_RD0 (io), B5 FC2_TxD (io), B6 CONFIG_5 (io), B7 CONFIG_8 (io), B8 SDIO_D0 (io), B9 FC3_RxD (io), B10 GPIO[12]DSR (io), B11 JTAG_nRST (io), B12 JTAG_TDI (io), B14 JTAG_TCK (io), C1 NC[17] (io), C2 NC[16] (io), C16 NC[20], D1 NC[18] (io), D2 GPIO[29] (io), D3 QSPI_RDQS (io), E1 USB_DM (io), E2 GPIO[27] (io), E3 USB_VBUS (io), F1 USB_DP (io), F2 USB_ID (io), F3 RMII_CLK (io), J1 RMII_RxD0 (io), J2 RMII_RxD1 (io), J3 RMII_TxEN (io), K1 RMII_TxD0 (io), K2 RMII_TxD1 (io), K3 GPIO[61] (io), L1 RMII_MDIO (io), L2 RMII_MDC (io), L4 RMII_INT (in), L5 PDn (io), L16 NC[19], M1 RMII_CRSDV (io), M2 GPIO[21] (io), M3 GPIO[52] (io), M4 GPIO[50] (io), M5 GPIO[48] (io), M6 GPIO[46] (io), M7 GPIO[44] (io), M8 GPIO[42] (io), M9 GPIO[4] (io), M10 GPIO[2] (io), M11 GPIO[0] (io), M12 EXT_GNT (io), M14 EXT_FREQ (io), N1 RMII_RxERR (io), N2 GPIO[54] (io), N3 GPIO[53] (io), N4 GPIO[51] (io), N5 GPIO[49] (io), N6 GPIO[47] (io), N7 GPIO[45] (io), N8 GPIO[43] (io), N9 GPIO[5] (io), N10 GPIO[3] (io), N11 GPIO[1] (io), N12 EXT_REQ (io), N14 EXT_PRI (io), N16 RF-1
part B pins: A15 GND (power), B15 GND (power), B16 GND (power), C3 GND (power), C4 NC[6], C5 NC[5], C6 SDIO_CLK, C7 SDIO_CMD, C8 SDIO_D3, C9 SDIO_D2, C10 NC[4] (io), C11 NC[3] (io), C12 NC[2] (io), C14 NC[1] (io), C15 GND (power), D14 GND (power), D15 GND (power), D16 GND (power), E14 GND (power), E15 GND (power), E16 GND (power), F5 GND (power), F6 GND (power), F7 GND (power), F8 GND (power), F9 GND (power), F10 GND (power), F11 GND (power), F14 GND (power), F15 GND (power), F16 GND (power), G1 GND (power), G2 GND (power), G3 GND (power), G14 GND (power), G15 GND (power), G16 GND (power), H1 VCC (power), H2 VCC (power), H3 VCC (power), H5 GND (power), H6 GND (power), H7 GND (power), H8 GND (power), H9 GND (power), H10 GND (power), H11 GND (power), H14 GND (power), H15 GND (power), H16 GND (power), J14 GND (power), J15 GND (power), J16 GND (power), K14 GND (power), K15 GND (power), K16 GND (power), L3 GND (power), L6 VCCIO (power), L7 +1V8 (power), L8 +3V3 (power), L9 NC[11], L10 NC[10], L11 NC[9], L12 NC[8], L14 NC[7], L15 GND (power), M15 GND (power), M16 GND (power), N15 GND (power)
part A text: INTERFACES
part B text: POWER

## IRIS-W106
designator M?, comment IRIS-W1x6
SHORT RANGE STAND-ALONE MULTIRADIO MODULE U-BLOX IRIS-W106; Part Number: UBXH14-0000681; Editor: olof.viklund; Env: ROHS; Permitted Use: Volume Products; Perferred: PREF; Min Operating Temp: -40°C; Max Operating Temp: 85°C; Part Type: RF; UBX Wiki: https://wiki.u-blox.com/bin/view/Operations/PartDetails?index=38240; RefDes: A
footprint IRIS-W1x6 (IRIS LGA, 152pin ,1.1mm Pitch, 14.6mm x 20.9mm)
part A pins: A1 NC[14] (io), A2 QSPI_RCLK (io), A3 QSPI_RD3 (io), A4 QSPI_RD1 (io), A5 QSPI_RCE (io), A6 FC2_RxD (io), A7 CONFIG_11 (io), A8 CONFIG_7 (io), A9 SDIO_D1 (io), A10 FC3_TxD (io), A11 GPIO[11]DTR (io), A12 JTAG_TDO (io), A14 JTAG_TMS (io), A16 RF-2, B1 NC[15] (io), B2 NC[12] (io), B3 QSPI_RD2 (io), B4 QSPI_RD0 (io), B5 FC2_TxD (io), B6 CONFIG_5 (io), B7 CONFIG_8 (io), B8 SDIO_D0 (io), B9 FC3_RxD (io), B10 GPIO[12]DSR (io), B11 JTAG_nRST (io), B12 JTAG_TDI (io), B14 JTAG_TCK (io), C1 NC[17] (io), C2 NC[16] (io), C16 NC[20], D1 NC[18] (io), D2 GPIO[29] (io), D3 QSPI_RDQS (io), E1 USB_DM (io), E2 GPIO[27] (io), E3 USB_VBUS (io), F1 USB_DP (io), F2 USB_ID (io), F3 RMII_CLK (io), J1 RMII_RxD0 (io), J2 RMII_RxD1 (io), J3 RMII_TxEN (io), K1 RMII_TxD0 (io), K2 RMII_TxD1 (io), K3 GPIO[61] (io), L1 RMII_MDIO (io), L2 RMII_MDC (io), L4 RMII_INT (in), L5 PDn (io), L16 NC[19], M1 RMII_CRSDV (io), M2 GPIO[21] (io), M3 GPIO[52] (io), M4 GPIO[50] (io), M5 GPIO[48] (io), M6 GPIO[46] (io), M7 GPIO[44] (io), M8 GPIO[42] (io), M9 GPIO[4] (io), M10 GPIO[2] (io), M11 GPIO[0] (io), M12 EXT_GNT (io), M14 EXT_FREQ (io), N1 RMII_RxERR (io), N2 GPIO[54] (io), N3 GPIO[53] (io), N4 GPIO[51] (io), N5 GPIO[49] (io), N6 GPIO[47] (io), N7 GPIO[45] (io), N8 GPIO[43] (io), N9 GPIO[5] (io), N10 GPIO[3] (io), N11 GPIO[1] (io), N12 EXT_REQ (io), N14 EXT_PRI (io), N16 RF-1
part B pins: A15 GND (power), A19 GND, A20 GND, B15 GND (power), B16 GND (power), B20 GND, C3 GND (power), C4 NC[6], C5 NC[5], C6 SDIO_CLK, C7 SDIO_CMD, C8 SDIO_D3, C9 SDIO_D2, C10 NC[4] (io), C11 NC[3] (io), C12 NC[2] (io), C14 NC[1] (io), C15 GND (power), D14 GND (power), D15 GND (power), D16 GND (power), E14 GND (power), E15 GND (power), E16 GND (power), F5 GND (power), F6 GND (power), F7 GND (power), F8 GND (power), F9 GND (power), F10 GND (power), F11 GND (power), F14 GND (power), F15 GND (power), F16 GND (power), G1 GND (power), G2 GND (power), G3 GND (power), G14 GND (power), G15 GND (power), G16 GND (power), H1 VCC (power), H2 VCC (power), H3 VCC (power), H5 GND (power), H6 GND (power), H7 GND (power), H8 GND (power), H9 GND (power), H10 GND (power), H11 GND (power), H14 GND (power), H15 GND (power), H16 GND (power), J14 GND (power), J15 GND (power), J16 GND (power), K14 GND (power), K15 GND (power), K16 GND (power), L3 GND (power), L6 VCCIO (power), L7 +1V8 (power), L8 +3V3 (power), L9 NC[11], L10 NC[10], L11 NC[9], L12 NC[8], L14 NC[7], L15 GND (power), M15 GND (power), M16 GND (power), M20 GND, N15 GND (power), N19 GND, N20 GND
part A text: INTERFACES
part B text: POWER

## JODY-W1
designator U?
u-blox JODY-W1 host-based modules with Wi-Fi and dual-mode Bluetooth; Value: JODY-W1; Manufacturer: u-blox; Part Description: Host-based modules with Wi-Fi and dual-mode Bluetooth
footprint JODY-W1
pins: 1 GND, 2 VBAT, 3 VIO, 4 VIO_SD (power), 5 GND, 6 PCIE_EN, 7 SD_DES, 8 SD_VDD_SEL, 9 WL_DEV_WAKE, 10 WL_HOST_WAKE, 11 BT_DEV_WAKE, 12 BT_HOST_WAKE, 13 LTE_COEX_TX, 14 LTE_COEX_RX, 15 PCM_SYNC, 16 PCM_CLK, 17 PCM_OUT, 18 PCM_IN, 19 GND, 20 GND, 21 ANT2, 22 GND, 23 GND, 24 ANT0, 25 GND, 26 NC, 27 GND, 28 GND, 29 ANT1, 30 GND, 31 GND, 32 I2S_DI, 33 I2S_DO, 34 I2S_CLK, 35 I2S_WS, 36 BT_UART_TX, 37 BT_UART_RX, 38 BT_UART_RTS, 39 BT_UART_CTS, 40 PCIE_PME#, 41 PCIE_CLKREQ#, 42 PCIE_PERST#, 43 PCIE_REFCLKN, 44 PCIE_REFCLKP, 45 PCIE_RDN, 46 PCIE_RDP, 47 PCIE_TDN, 48 PCIE_TDP, 49 GND, 50 SD_D2, 51 SD_D3, 52 SD_CMD, 53 SD_CLK, 54 SD_D0, 55 SD_D1, 56 NC, 57 NC, 58 WL_PDn, 59 BT_PDn, 60 LPO_IN, EP

## JODY-W2
designator U?, comment JODY-W1
u-blox JODY-W2 host-based modules with Wi-Fi and dual-mode Bluetooth; Value: JODY-W1; Manufacturer: u-blox; Part Description: Host-based modules with Wi-Fi and dual-mode Bluetooth
footprint JODY-W1
pins: 1 GND, 2 VBAT, 3 VIO, 4 1V8 (power), 5 GND, 6 RESERVED, 7 CONFIG[0], 8 CONFIG[1], 9 GPIO_13, 10 HOST_WAKE, 11 GPIO_12, 12 GPIO_20, 13 LTE_COEX_TX, 14 LTE_COEX_RX, 15 PCM_SYNC, 16 PCM_CLK, 17 PCM_OUT, 18 PCM_IN, 19 GND, 20 GND, 21 ANT2, 22 GND, 23 GND, 24 ANT0, 25 GND, 26 ANT3, 27 GND, 28 GND, 29 ANT1, 30 GND, 31 GND, 32 GPIO_14, 33 GPIO_15, 34 GPIO_2, 35 GPIO_3, 36 BT_UART_TX, 37 BT_UART_RX, 38 BT_UART_RTS, 39 BT_UART_CTS, 40 GPIO_18, 41 GPIO_19, 42 GPIO_0, 43 NC, 44 NC, 45 NC, 46 NC, 47 NC, 48 NC, 49 GND, 50 SD_D2, 51 SD_D3, 52 SD_CMD, 53 SD_CLK, 54 SD_D0, 55 SD_D1, 56 NC, 57 NC, 58 WL_PDn, 59 BT_PDn, 60 LPO_IN, EP

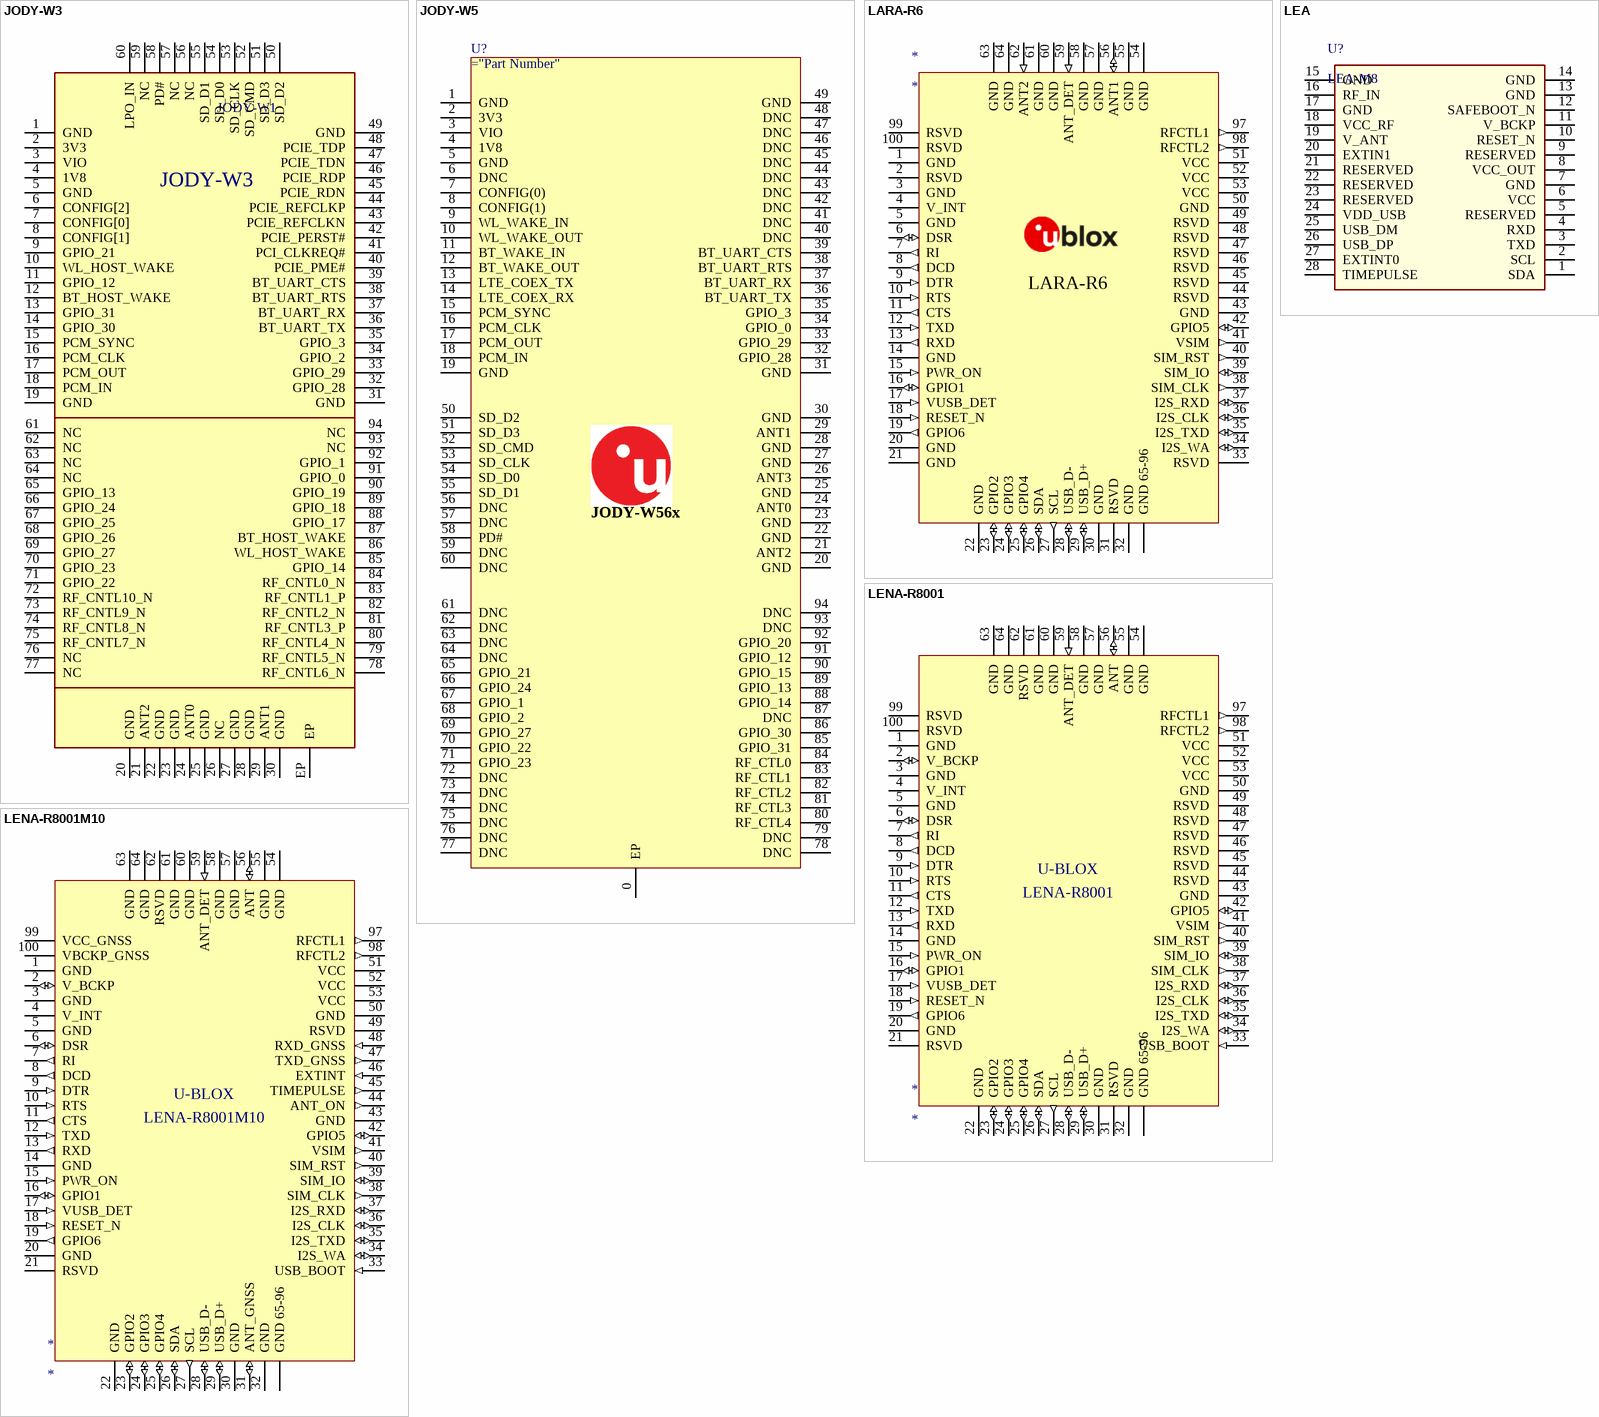
[diagram p5: symbols JODY-W3 to LENA-R8001M10]

## JODY-W3
designator U?, comment JODY-W1
u-blox JODY-W3 host-based modules with Wi-Fi and dual-mode Bluetooth; Value: JODY-W1; Manufacturer: u-blox; Part Description: Host-based modules with Wi-Fi and dual-mode Bluetooth
footprint JODY-W3 (Host-based modules with Wi-Fi and dual-mode Bluetooth)
pins: 1 GND, 2 3V3 (power), 3 VIO, 4 1V8 (power), 5 GND, 6 CONFIG[2], 7 CONFIG[0], 8 CONFIG[1], 9 GPIO_21, 10 WL_HOST_WAKE, 11 GPIO_12, 12 BT_HOST_WAKE, 13 GPIO_31, 14 GPIO_30, 15 PCM_SYNC, 16 PCM_CLK, 17 PCM_OUT, 18 PCM_IN, 19 GND, 20 GND, 21 ANT2, 22 GND, 23 GND, 24 ANT0, 25 GND, 26 NC, 27 GND, 28 GND, 29 ANT1, 30 GND, 31 GND, 32 GPIO_28, 33 GPIO_29, 34 GPIO_2, 35 GPIO_3, 36 BT_UART_TX, 37 BT_UART_RX, 38 BT_UART_RTS, 39 BT_UART_CTS, 40 PCIE_PME#, 41 PCI_CLKREQ#, 42 PCIE_PERST#, 43 PCIE_REFCLKN, 44 PCIE_REFCLKP, 45 PCIE_RDN, 46 PCIE_RDP, 47 PCIE_TDN, 48 PCIE_TDP, 49 GND, 50 SD_D2, 51 SD_D3, 52 SD_CMD, 53 SD_CLK, 54 SD_D0, 55 SD_D1, 56 NC, 57 NC, 58 PD#, 59 NC, 60 LPO_IN, 61 NC, 62 NC, 63 NC, 64 NC, 65 GPIO_13, 66 GPIO_24, 67 GPIO_25, 68 GPIO_26, 69 GPIO_27, 70 GPIO_23, 71 GPIO_22, 72 RF_CNTL10_N, 73 RF_CNTL9_N, 74 RF_CNTL8_N, 75 RF_CNTL7_N, 76 NC, 77 NC, 78 RF_CNTL6_N, 79 RF_CNTL5_N, 80 RF_CNTL4_N, 81 RF_CNTL3_P, 82 RF_CNTL2_N, 83 RF_CNTL1_P, 84 RF_CNTL0_N, 85 GPIO_14, 86 WL_HOST_WAKE, 87 BT_HOST_WAKE, 88 GPIO_17, 89 GPIO_18, 90 GPIO_19, 91 GPIO_0, 92 GPIO_1, 93 NC, 94 NC, EP

## JODY-W5
designator U?  (no BOM)
u-blox JODY-W5 host-based modules with Wi-Fi and dual-mode Bluetooth; ComponentLink1URL: *; ComponentLink1Description: Datasheet; ComponentLink2URL: *; ComponentLink2Description: Supplier link; Manufacturer P/N: *
footprint JODY-W5 (Module footprint for EVB (include Paste Mask))
pins: 0 EP, 1 GND, 2 3V3, 3 VIO, 4 1V8, 5 GND, 6 DNC, 7 CONFIG(0), 8 CONFIG(1), 9 WL_WAKE_IN, 10 WL_WAKE_OUT, 11 BT_WAKE_IN, 12 BT_WAKE_OUT, 13 LTE_COEX_TX, 14 LTE_COEX_RX, 15 PCM_SYNC, 16 PCM_CLK, 17 PCM_OUT, 18 PCM_IN, 19 GND, 20 GND, 21 ANT2, 22 GND, 23 GND, 24 ANT0, 25 GND, 26 ANT3, 27 GND, 28 GND, 29 ANT1, 30 GND, 31 GND, 32 GPIO_28, 33 GPIO_29, 34 GPIO_0, 35 GPIO_3, 36 BT_UART_TX, 37 BT_UART_RX, 38 BT_UART_RTS, 39 BT_UART_CTS, 40 DNC, 41 DNC, 42 DNC, 43 DNC, 44 DNC, 45 DNC, 46 DNC, 47 DNC, 48 DNC, 49 GND, 50 SD_D2, 51 SD_D3, 52 SD_CMD, 53 SD_CLK, 54 SD_D0, 55 SD_D1, 56 DNC, 57 DNC, 58 PD#, 59 DNC, 60 DNC, 61 DNC, 62 DNC, 63 DNC, 64 DNC, 65 GPIO_21, 66 GPIO_24, 67 GPIO_1, 68 GPIO_2, 69 GPIO_27, 70 GPIO_22, 71 GPIO_23, 72 DNC, 73 DNC, 74 DNC, 75 DNC, 76 DNC, 77 DNC, 78 DNC, 79 DNC, 80 RF_CTL4, 81 RF_CTL3, 82 RF_CTL2, 83 RF_CTL1, 84 RF_CTL0, 85 GPIO_31, 86 GPIO_30, 87 DNC, 88 GPIO_14, 89 GPIO_13, 90 GPIO_15, 91 GPIO_12, 92 GPIO_20, 93 DNC, 94 DNC
text: JODY-W56x

## LARA-R6
designator *
u-blox LARA-R6 cellular module
footprint LARA (Footprint for LARA modules); pin to pad 65>65+66+67+68+69+70+71+72+73+74+75+76+77+78+79+80+81+82+83+84+85+86+87+88+89+90+91+92+93+94+95+96
pins: 1 GND (power), 2 RSVD, 3 GND (power), 4 V_INT (power), 5 GND (power), 6 DSR (io), 7 RI (out), 8 DCD (out), 9 DTR (in), 10 RTS (in), 11 CTS (out), 12 TXD (in), 13 RXD (out), 14 GND (power), 15 PWR_ON (in), 16 GPIO1 (io), 17 VUSB_DET (in), 18 RESET_N (in), 19 GPIO6 (out), 20 GND (power), 21 GND (power), 22 GND (power), 23 GPIO2 (io), 24 GPIO3 (io), 25 GPIO4 (io), 26 SDA (io), 27 SCL (out), 28 USB_D- (io), 29 USB_D+ (io), 30 GND (power), 31 RSVD, 32 GND (power), 33 RSVD, 34 I2S_WA (io), 35 I2S_TXD (io), 36 I2S_CLK (io), 37 I2S_RXD (io), 38 SIM_CLK (out), 39 SIM_IO (io), 40 SIM_RST (out), 41 VSIM (out), 42 GPIO5 (io), 43 GND (power), 44 RSVD, 45 RSVD, 46 RSVD, 47 RSVD, 48 RSVD, 49 RSVD, 50 GND (power), 51 VCC (power), 52 VCC (power), 53 VCC (power), 54 GND (power), 55 GND (power), 56 ANT1 (io), 57 GND (power), 58 GND (power), 59 ANT_DET (in), 60 GND (power), 61 GND (power), 62 ANT2 (in), 63 GND (power), 64 GND (power), 65 GND 65-96 (power), 97 RFCTL1 (out), 98 RFCTL2 (out), 99 RSVD, 100 RSVD

## LEA
designator U?, comment LEA-M8
u-blox LEA GNSS module; Part Description: u-blox LEA-M8 GNSS module; Manufacturer: u-blox; Value: LEA-M8
footprint LEA (u-blox LEA GNSS module)
pins: 1 SDA, 2 SCL, 3 TXD, 4 RXD, 5 RESERVED, 6 VCC, 7 GND, 8 VCC_OUT, 9 RESERVED, 10 RESET_N, 11 V_BCKP, 12 SAFEBOOT_N, 13 GND, 14 GND, 15 GND, 16 RF_IN, 17 GND, 18 VCC_RF, 19 V_ANT, 20 EXTIN1, 21 RESERVED, 22 RESERVED, 23 RESERVED, 24 VDD_USB, 25 USB_DM, 26 USB_DP, 27 EXTINT0, 28 TIMEPULSE

## LENA-R8001
designator *
Multi-mode LTE Cat 1bis module; Manufacturer: u-blox; value: LENA-R8001
footprint LENA (Footprint for LENA modules)
pins: 1 GND (power), 2 V_BCKP (io), 3 GND (power), 4 V_INT (power), 5 GND (power), 6 DSR (io), 7 RI (out), 8 DCD (out), 9 DTR (in), 10 RTS (in), 11 CTS (out), 12 TXD (in), 13 RXD (out), 14 GND (power), 15 PWR_ON (in), 16 GPIO1 (io), 17 VUSB_DET (in), 18 RESET_N (in), 19 GPIO6 (out), 20 GND (power), 21 RSVD, 22 GND (power), 23 GPIO2 (io), 24 GPIO3 (io), 25 GPIO4 (io), 26 SDA (io), 27 SCL (out), 28 USB_D- (io), 29 USB_D+ (io), 30 GND (power), 31 RSVD, 32 GND (power), 33 USB_BOOT (in), 34 I2S_WA (io), 35 I2S_TXD (io), 36 I2S_CLK (io), 37 I2S_RXD (io), 38 SIM_CLK (out), 39 SIM_IO (io), 40 SIM_RST (out), 41 VSIM (out), 42 GPIO5 (io), 43 GND (power), 44 RSVD, 45 RSVD, 46 RSVD, 47 RSVD, 48 RSVD, 49 RSVD, 50 GND (power), 51 VCC (power), 52 VCC (power), 53 VCC (power), 54 GND (power), 55 GND (power), 56 ANT (io), 57 GND (power), 58 GND (power), 59 ANT_DET (in), 60 GND (power), 61 GND (power), 62 RSVD, 63 GND (power), 64 GND (power), 65 GND 65-96 (power), 97 RFCTL1 (out), 98 RFCTL2 (out), 99 RSVD, 100 RSVD
text: U-BLOX

## LENA-R8001M10
designator *
Multi-mode LTE Cat 1bis module with integrated GNSS receiver; Manufacturer: u-blox; value: LENA-R8001M10
footprint LENA (Footprint for LENA modules)
pins: 1 GND (power), 2 V_BCKP (io), 3 GND (power), 4 V_INT (power), 5 GND (power), 6 DSR (io), 7 RI (out), 8 DCD (out), 9 DTR (in), 10 RTS (in), 11 CTS (out), 12 TXD (in), 13 RXD (out), 14 GND (power), 15 PWR_ON (in), 16 GPIO1 (io), 17 VUSB_DET (in), 18 RESET_N (in), 19 GPIO6 (out), 20 GND (power), 21 RSVD, 22 GND (power), 23 GPIO2 (io), 24 GPIO3 (io), 25 GPIO4 (io), 26 SDA (io), 27 SCL (out), 28 USB_D- (io), 29 USB_D+ (io), 30 GND (power), 31 ANT_GNSS (io), 32 GND (power), 33 USB_BOOT (in), 34 I2S_WA (io), 35 I2S_TXD (io), 36 I2S_CLK (io), 37 I2S_RXD (io), 38 SIM_CLK (out), 39 SIM_IO (io), 40 SIM_RST (out), 41 VSIM (out), 42 GPIO5 (io), 43 GND (power), 44 ANT_ON (out), 45 TIMEPULSE (out), 46 EXTINT (in), 47 TXD_GNSS (out), 48 RXD_GNSS (in), 49 RSVD, 50 GND (power), 51 VCC (power), 52 VCC (power), 53 VCC (power), 54 GND (power), 55 GND (power), 56 ANT (io), 57 GND (power), 58 GND (power), 59 ANT_DET (in), 60 GND (power), 61 GND (power), 62 RSVD, 63 GND (power), 64 GND (power), 65 GND 65-96 (power), 97 RFCTL1 (out), 98 RFCTL2 (out), 99 VCC_GNSS (power), 100 VBCKP_GNSS (power)
text: U-BLOX

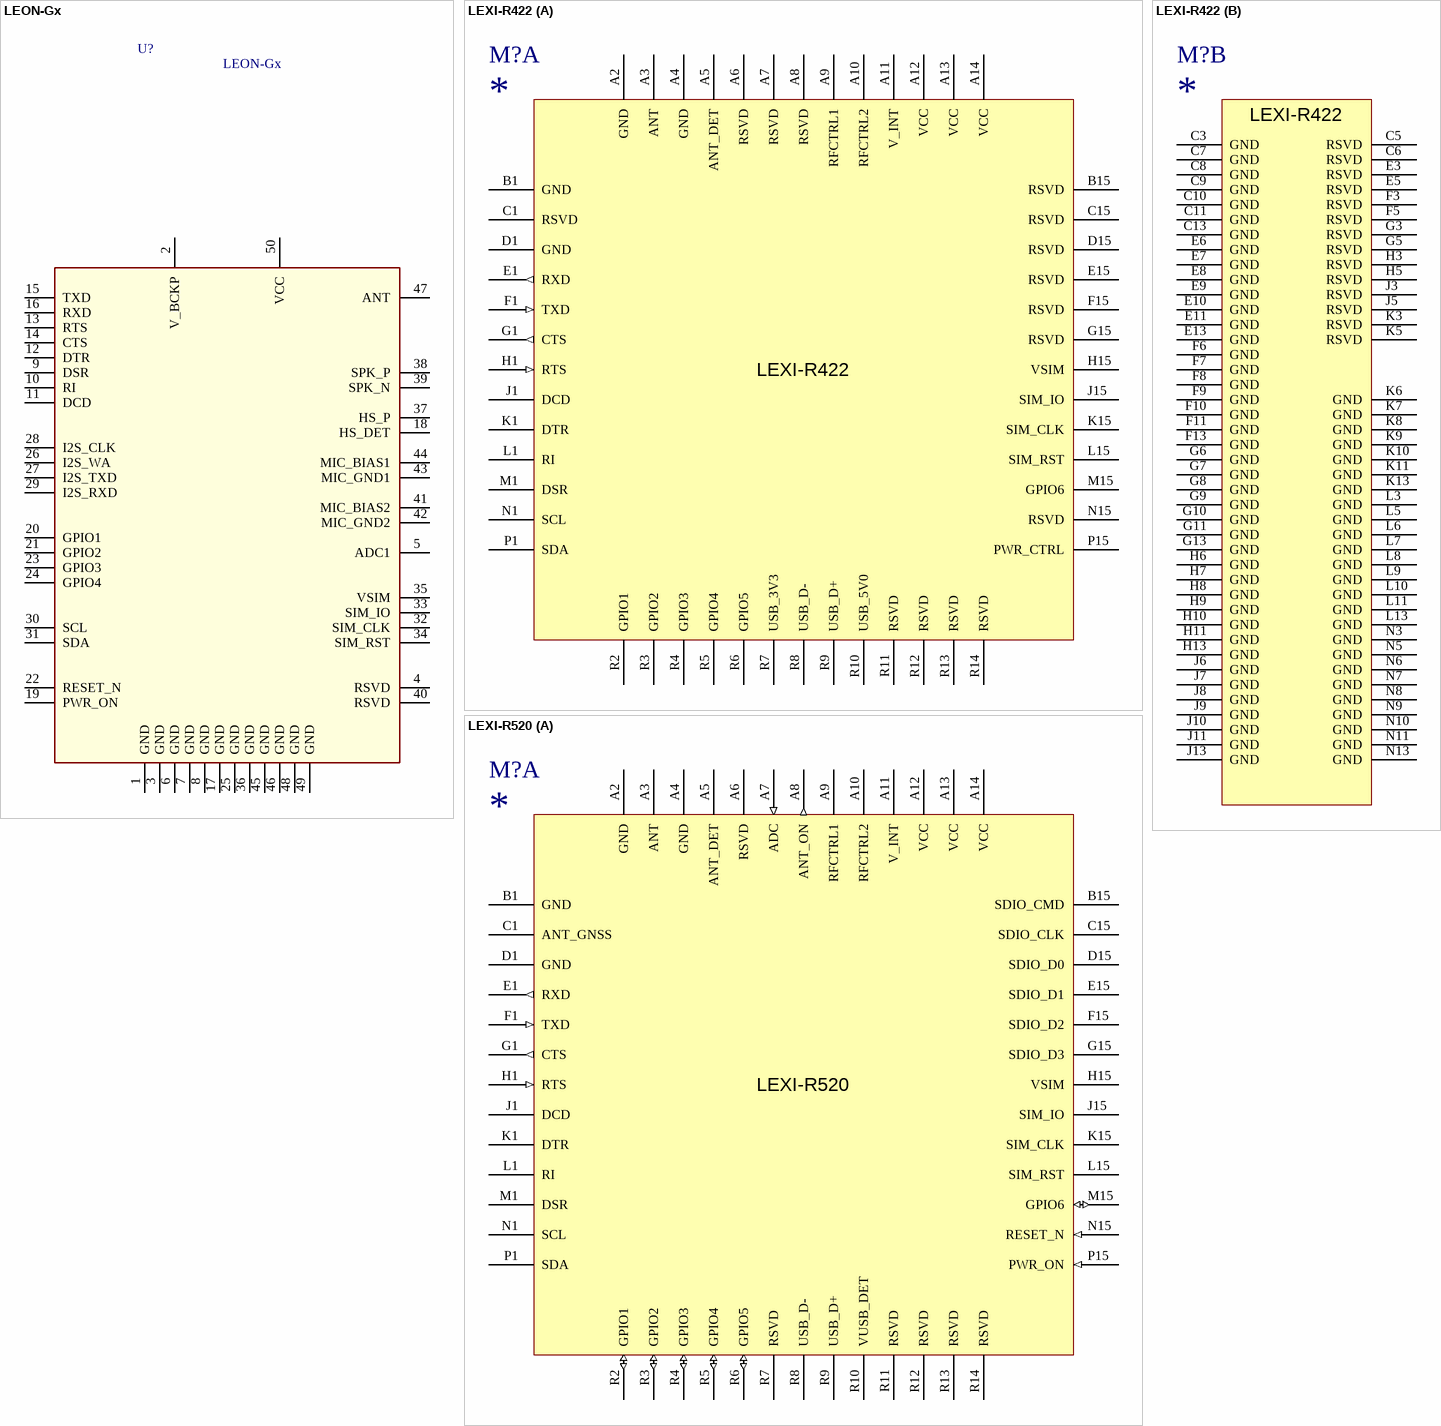
[diagram p6: symbols LEON-Gx to LEXI-R520]

## LEON-Gx
designator U?
u-blox LEON-Gx quad-band GSM/GPRS data & voice module; Manufacturer: u-blox; Part Description: quad-band GSM/GPRS data & voice module; Value: LEON-Gx
footprint LEON-Gx (quad-band GSM/GPRS data & voice module)
pins: 1 GND, 2 V_BCKP, 3 GND, 4 RSVD, 5 ADC1, 6 GND, 7 GND, 8 GND, 9 DSR, 10 RI, 11 DCD, 12 DTR, 13 RTS, 14 CTS, 15 TXD, 16 RXD, 17 GND, 18 HS_DET, 19 PWR_ON, 20 GPIO1, 21 GPIO2, 22 RESET_N, 23 GPIO3, 24 GPIO4, 25 GND, 26 I2S_WA, 27 I2S_TXD, 28 I2S_CLK, 29 I2S_RXD, 30 SCL, 31 SDA, 32 SIM_CLK, 33 SIM_IO, 34 SIM_RST, 35 VSIM, 36 GND, 37 HS_P, 38 SPK_P, 39 SPK_N, 40 RSVD, 41 MIC_BIAS2, 42 MIC_GND2, 43 MIC_GND1, 44 MIC_BIAS1, 45 GND, 46 GND, 47 ANT, 48 GND, 49 GND, 50 VCC

## LEXI-R422
designator M?
u-blox LEXI-R422 modules, a complete and cost-efficient solution offering multi-band LTE-M / NB-IoT / EGPRS data transmissions for low power wide area solutions in the ultra-compact LEXI form factor.; Manufacturer P/N: *
footprint LEXI
part A pins: A2 GND (power), A3 ANT "Cellular antenna", A4 GND (power), A5 ANT_DET "GPS antenna", A6 RSVD (power), A7 RSVD (power), A8 RSVD (power), A9 RFCTRL1 "Antenna detection", A10 RFCTRL2 "GPS Antenna / LNA supply control", A11 V_INT "RF GPIO for cellular antenna tuning", A12 VCC "RF GPIO for cellular antenna tuning", A13 VCC "ADC input", A14 VCC "ADC input", B1 GND "Digital Interfaces supply output", B15 RSVD "Leave unconnected", C1 RSVD "UART data output", C15 RSVD "Leave unconnected", D1 GND "UARTdata input", D15 RSVD "Leave unconnected", E1 RXD (out) "UART clear to send", E15 RSVD "Leave unconnected", F1 TXD (in) "UART request to send", F15 RSVD "Leave unconnected", G1 CTS (out) "UART data carrier detect /  AUX UART data output", G15 RSVD "Leave unconnected", H1 RTS (in) "UART data terminal ready /  AUX UART data input", H15 VSIM "Pin for SIM card detection", J1 DCD "UART ring indicator /  AUX UART clear to send", J15 SIM_IO "SIM data", K1 DTR "UART data set ready /  AUX UART request to send", K15 SIM_CLK "SIM clock", L1 RI "Power-on input", L15 SIM_RST "SIM reset", M1 DSR "Leave unconnected", M15 GPIO6 "SIM supply output", N1 SCL "I2C bus clock line", N15 RSVD "SIM clock", P1 SDA "I2C bus data line", P15 PWR_CTRL "SIM reset", R2 GPIO1, R3 GPIO2, R4 GPIO3, R5 GPIO4 "USB Data Line D-", R6 GPIO5 "USB Data Line D+", R7 USB_3V3 "USB detect input", R8 USB_D- "USB supply input", R9 USB_D+, R10 USB_5V0, R11 RSVD, R12 RSVD "USB Data Line D-", R13 RSVD "USB Data Line D+", R14 RSVD "USB detect input"
part B pins: C3 GND (power), C5 RSVD (power), C6 RSVD (power) "Module supply input", C7 GND (power), C8 GND (power), C9 GND (power), C10 GND (power), C11 GND (power), C13 GND (power), E3 RSVD (power) "Module supply input", E5 RSVD (power), E6 GND (power), E7 GND (power), E8 GND (power), E9 GND (power), E10 GND (power), E11 GND (power), E13 GND (power), F3 RSVD (power) "Module supply input", F5 RSVD (power), F6 GND (power), F7 GND (power), F8 GND (power), F9 GND (power), F10 GND (power), F11 GND (power), F13 GND (power), G3 RSVD (power), G5 RSVD (power), G6 GND (power), G7 GND (power), G8 GND (power), G9 GND (power), G10 GND (power), G11 GND (power), G13 GND (power), H3 RSVD (power), H5 RSVD (power), H6 GND (power), H7 GND (power), H8 GND (power), H9 GND (power), H10 GND (power), H11 GND (power), H13 GND (power), J3 RSVD (power), J5 RSVD (power), J6 GND (power), J7 GND (power), J8 GND (power), J9 GND (power), J10 GND (power), J11 GND (power), J13 GND (power), K3 RSVD (power), K5 RSVD (power), K6 GND (power), K7 GND (power), K8 GND (power), K9 GND (power), K10 GND (power), K11 GND (power), K13 GND (power), L3 GND (power), L5 GND (power), L6 GND (power), L7 GND (power), L8 GND (power), L9 GND (power), L10 GND (power), L11 GND (power), L13 GND (power), N3 GND (power), N5 GND (power), N6 GND (power), N7 GND (power), N8 GND (power), N9 GND (power), N10 GND (power), N11 GND (power), N13 GND (power)

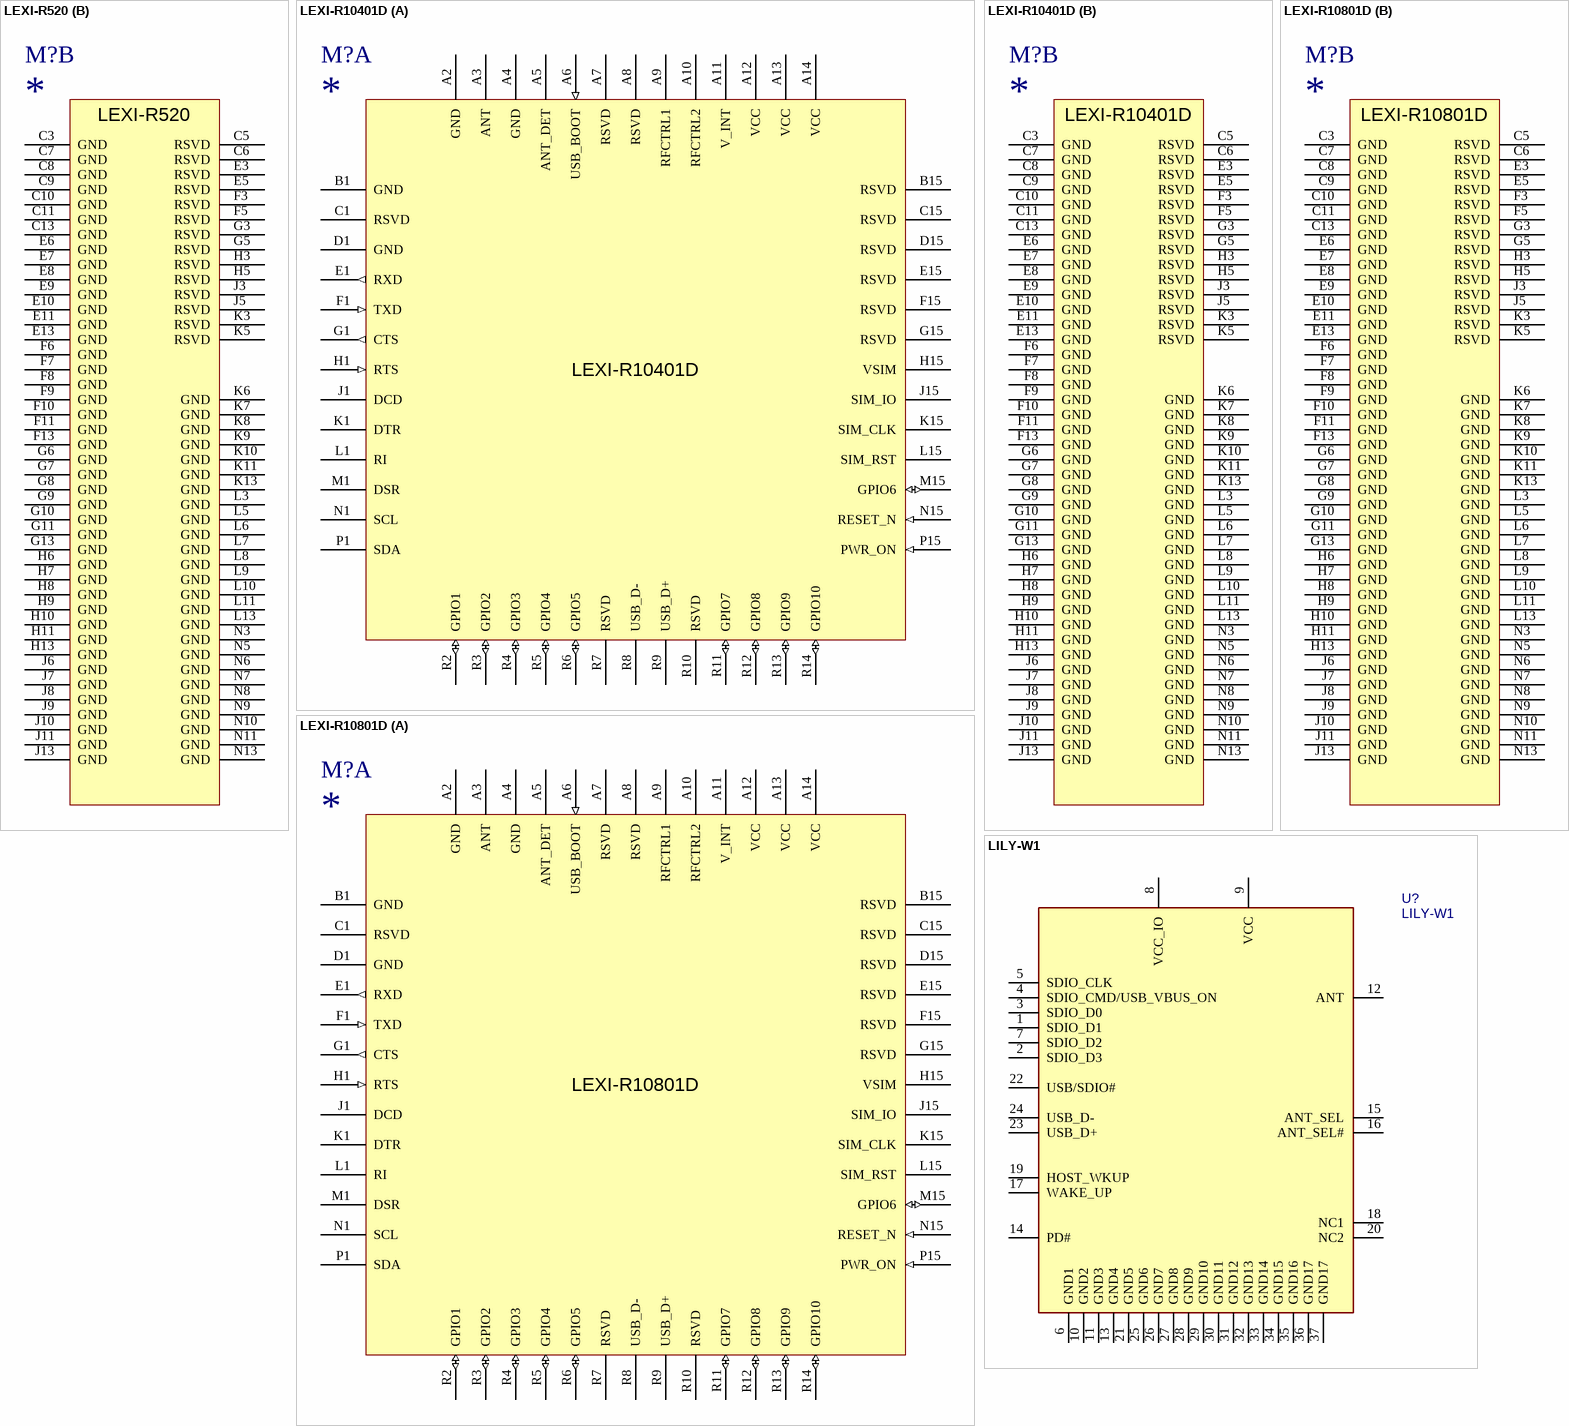
[diagram p7: symbols LEXI-R520 to LILY-W1]

## LEXI-R520
designator M?
u-blox LEXI-R520 multi-band LTE-M / NB-IoT modules, based on the latest u-blox UBX-R52 chipset, integrating cellular modem and A-GPS technology, delivering data connectivity alongside satellite positioning in the compact LEXI form factor.; Manufacturer P/N: *
footprint LEXI (Footprint not found)
part A pins: A2 GND (power), A3 ANT "Cellular antenna", A4 GND (power), A5 ANT_DET "GPS antenna", A6 RSVD "Leave unconnected", A7 ADC (in), A8 ANT_ON (out), A9 RFCTRL1 "Antenna detection", A10 RFCTRL2 "GPS Antenna / LNA supply control", A11 V_INT "RF GPIO for cellular antenna tuning", A12 VCC "RF GPIO for cellular antenna tuning", A13 VCC "ADC input", A14 VCC "ADC input", B1 GND "Digital Interfaces supply output", B15 SDIO_CMD, C1 ANT_GNSS, C15 SDIO_CLK "Leave unconnected", D1 GND "UARTdata input", D15 SDIO_D0 "Leave unconnected", E1 RXD (out) "UART clear to send", E15 SDIO_D1 "Leave unconnected", F1 TXD (in) "UART request to send", F15 SDIO_D2 "Leave unconnected", G1 CTS (out) "UART data carrier detect /  AUX UART data output", G15 SDIO_D3 "Leave unconnected", H1 RTS (in) "UART data terminal ready /  AUX UART data input", H15 VSIM "SIM voltage", J1 DCD "UART ring indicator /  AUX UART clear to send", J15 SIM_IO "SIM data", K1 DTR "UART data set ready /  AUX UART request to send", K15 SIM_CLK "SIM clock", L1 RI "Power-on input", L15 SIM_RST "SIM reset", M1 DSR "Leave unconnected", M15 GPIO6 (io) "SIM detection GPIO", N1 SCL "I2C bus clock line", N15 RESET_N (in) "Reset input (active low)", P1 SDA "I2C bus data line", P15 PWR_ON (in) "Power on input (active low)", R2 GPIO1 (io), R3 GPIO2 (io), R4 GPIO3 (io), R5 GPIO4 (io) "USB Data Line D-", R6 GPIO5 (io) "USB Data Line D+", R7 RSVD "Leave unconnected", R8 USB_D- "USB supply input", R9 USB_D+, R10 VUSB_DET, R11 RSVD, R12 RSVD, R13 RSVD, R14 RSVD
part B pins: C3 GND (power), C5 RSVD (power), C6 RSVD (power) "Module supply input", C7 GND (power), C8 GND (power), C9 GND (power), C10 GND (power), C11 GND (power), C13 GND (power), E3 RSVD (power) "Module supply input", E5 RSVD (power), E6 GND (power), E7 GND (power), E8 GND (power), E9 GND (power), E10 GND (power), E11 GND (power), E13 GND (power), F3 RSVD (power) "Module supply input", F5 RSVD (power), F6 GND (power), F7 GND (power), F8 GND (power), F9 GND (power), F10 GND (power), F11 GND (power), F13 GND (power), G3 RSVD (power), G5 RSVD (power), G6 GND (power), G7 GND (power), G8 GND (power), G9 GND (power), G10 GND (power), G11 GND (power), G13 GND (power), H3 RSVD (power), H5 RSVD (power), H6 GND (power), H7 GND (power), H8 GND (power), H9 GND (power), H10 GND (power), H11 GND (power), H13 GND (power), J3 RSVD (power), J5 RSVD (power), J6 GND (power), J7 GND (power), J8 GND (power), J9 GND (power), J10 GND (power), J11 GND (power), J13 GND (power), K3 RSVD (power), K5 RSVD (power), K6 GND (power), K7 GND (power), K8 GND (power), K9 GND (power), K10 GND (power), K11 GND (power), K13 GND (power), L3 GND (power), L5 GND (power), L6 GND (power), L7 GND (power), L8 GND (power), L9 GND (power), L10 GND (power), L11 GND (power), L13 GND (power), N3 GND (power), N5 GND (power), N6 GND (power), N7 GND (power), N8 GND (power), N9 GND (power), N10 GND (power), N11 GND (power), N13 GND (power)

## LEXI-R10401D
designator M?
u-blox LEXI-R10 series modules, a complete and cost-efficient / solution offering multi-band LTE Cat 1bis data transmissions in the ultra-compact LEXI form factor.; Manufacturer P/N: *
footprint LEXI (Footprint not found)
part A pins: A2 GND (power), A3 ANT "Cellular antenna", A4 GND (power), A5 ANT_DET "GPS antenna", A6 USB_BOOT (in), A7 RSVD (power), A8 RSVD (power), A9 RFCTRL1 "Antenna detection", A10 RFCTRL2 "GPS Antenna / LNA supply control", A11 V_INT "RF GPIO for cellular antenna tuning", A12 VCC "RF GPIO for cellular antenna tuning", A13 VCC "ADC input", A14 VCC "ADC input", B1 GND "Digital Interfaces supply output", B15 RSVD "Leave unconnected", C1 RSVD "UART data output", C15 RSVD "Leave unconnected", D1 GND "UARTdata input", D15 RSVD "Leave unconnected", E1 RXD (out) "UART clear to send", E15 RSVD "Leave unconnected", F1 TXD (in) "UART request to send", F15 RSVD "Leave unconnected", G1 CTS (out) "UART data carrier detect /  AUX UART data output", G15 RSVD "Leave unconnected", H1 RTS (in) "UART data terminal ready /  AUX UART data input", H15 VSIM "SIM voltage", J1 DCD "UART ring indicator /  AUX UART clear to send", J15 SIM_IO "SIM data", K1 DTR "UART data set ready /  AUX UART request to send", K15 SIM_CLK "SIM clock", L1 RI "Power-on input", L15 SIM_RST "SIM reset", M1 DSR "Leave unconnected", M15 GPIO6 (io) "SIM detection GPIO", N1 SCL "I2C bus clock line", N15 RESET_N (in) "Reset input (active low)", P1 SDA "I2C bus data line", P15 PWR_ON (in) "Power on input (active low)", R2 GPIO1 (io), R3 GPIO2 (io), R4 GPIO3 (io), R5 GPIO4 (io) "USB Data Line D-", R6 GPIO5 (io) "USB Data Line D+", R7 RSVD "Leave unconnected", R8 USB_D- "USB supply input", R9 USB_D+, R10 RSVD "Leave unconnected", R11 GPIO7 (io), R12 GPIO8 (io), R13 GPIO9 (io), R14 GPIO10 (io)
part B pins: C3 GND (power), C5 RSVD (power), C6 RSVD (power) "Module supply input", C7 GND (power), C8 GND (power), C9 GND (power), C10 GND (power), C11 GND (power), C13 GND (power), E3 RSVD (power) "Module supply input", E5 RSVD (power), E6 GND (power), E7 GND (power), E8 GND (power), E9 GND (power), E10 GND (power), E11 GND (power), E13 GND (power), F3 RSVD (power) "Module supply input", F5 RSVD (power), F6 GND (power), F7 GND (power), F8 GND (power), F9 GND (power), F10 GND (power), F11 GND (power), F13 GND (power), G3 RSVD (power), G5 RSVD (power), G6 GND (power), G7 GND (power), G8 GND (power), G9 GND (power), G10 GND (power), G11 GND (power), G13 GND (power), H3 RSVD (power), H5 RSVD (power), H6 GND (power), H7 GND (power), H8 GND (power), H9 GND (power), H10 GND (power), H11 GND (power), H13 GND (power), J3 RSVD (power), J5 RSVD (power), J6 GND (power), J7 GND (power), J8 GND (power), J9 GND (power), J10 GND (power), J11 GND (power), J13 GND (power), K3 RSVD (power), K5 RSVD (power), K6 GND (power), K7 GND (power), K8 GND (power), K9 GND (power), K10 GND (power), K11 GND (power), K13 GND (power), L3 GND (power), L5 GND (power), L6 GND (power), L7 GND (power), L8 GND (power), L9 GND (power), L10 GND (power), L11 GND (power), L13 GND (power), N3 GND (power), N5 GND (power), N6 GND (power), N7 GND (power), N8 GND (power), N9 GND (power), N10 GND (power), N11 GND (power), N13 GND (power)